# Altium integrated library ICs$.IntLib: 78 symbols
Pins are listed as number, name and electrical type; pins without a type are passive.

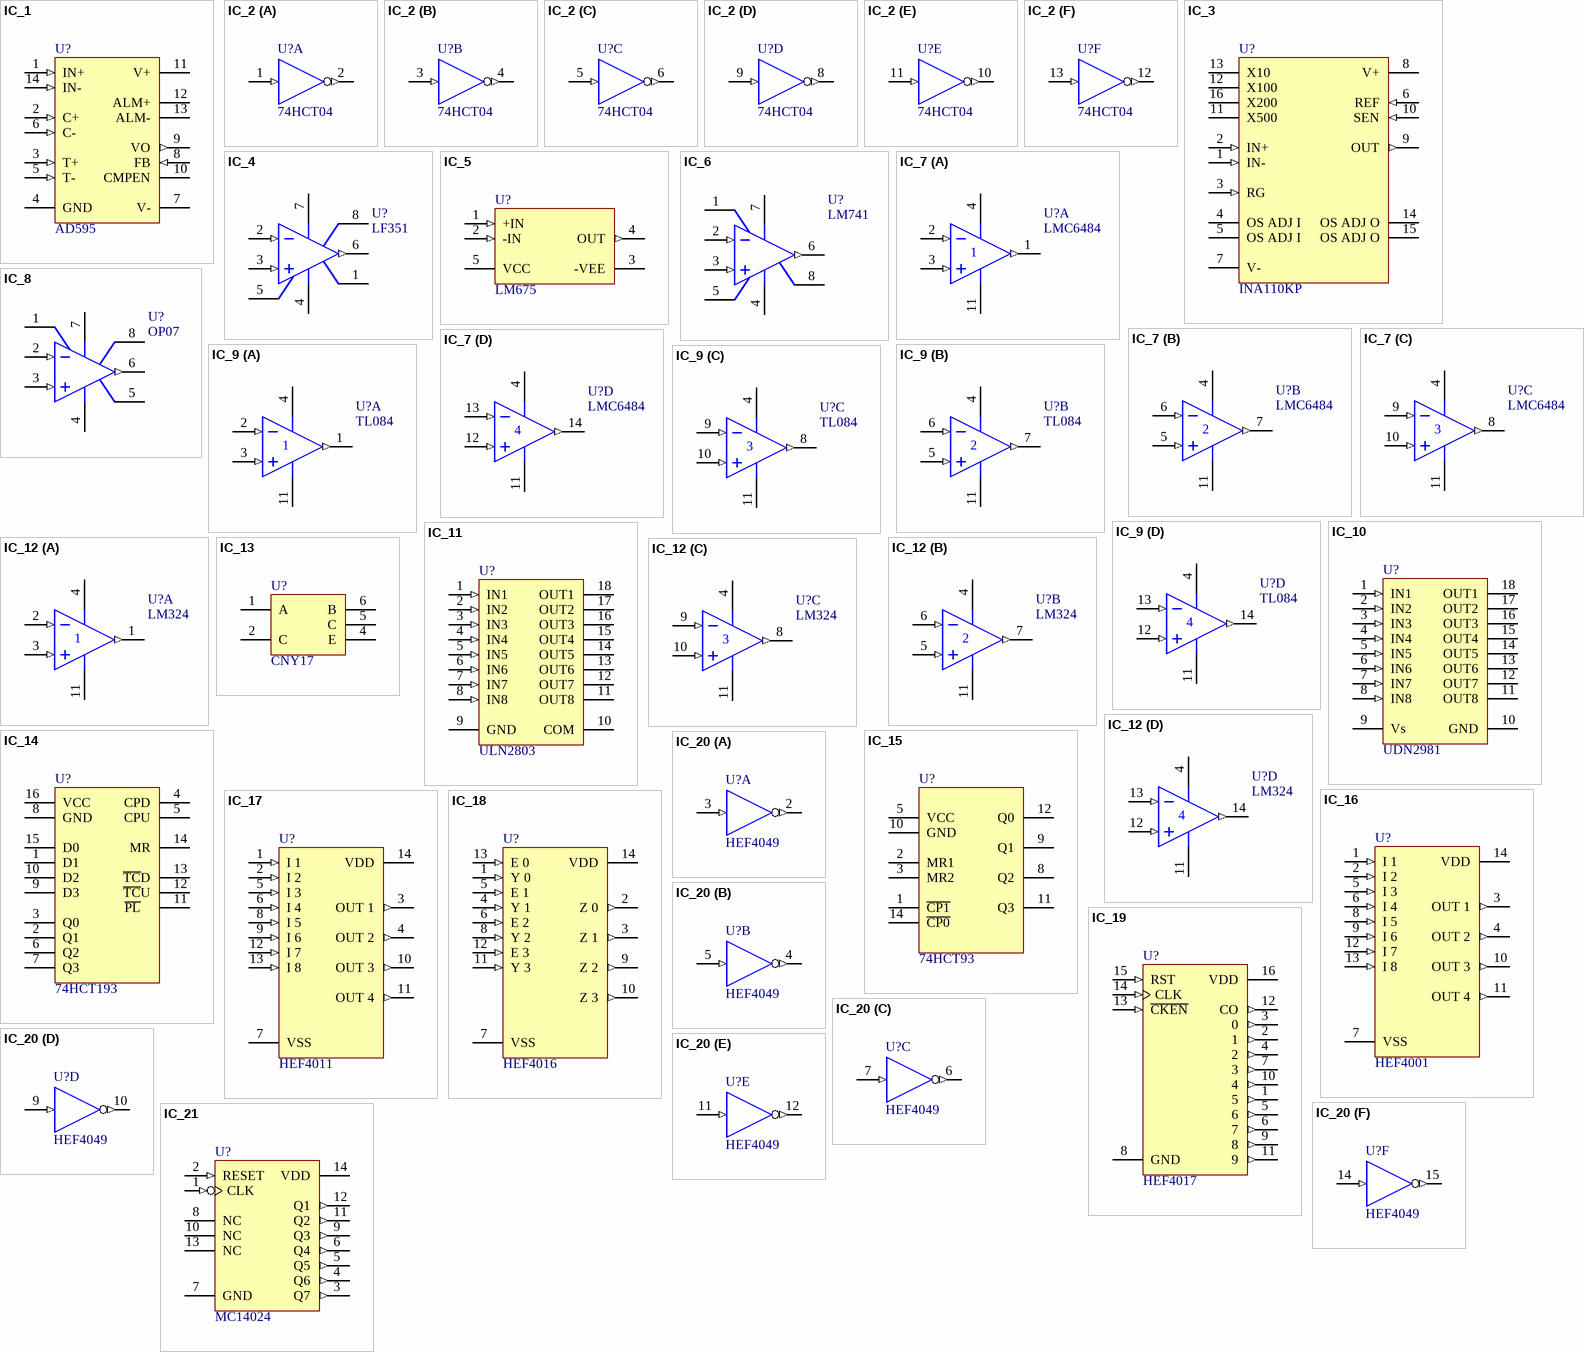
[diagram p0: symbols IC_1 to IC_21]

## IC_1
designator U?, comment AD595
RS_number: 301-779; IC_description: Messumformer Thermoelement; QR: 1; UID: IC_1; Name: AD595; Name_Hyperlink: IC AD595; ComponentLink1URL: #NAME?; mounting: THT
footprint DIP_14
pins: 1 IN+ (in), 2 C+ (in), 3 T+ (in), 4 GND (power), 5 T- (in), 6 C- (in), 7 V- (power), 8 FB (in), 9 VO (out), 10 CMPEN, 11 V+ (power), 12 ALM+, 13 ALM-, 14 IN- (in)

## IC_2
designator U?, comment 74HCT04
RS_number: 333-3791; IC_description: Inverter; QR: 1; UID: IC_2; Name: 74HCT04; Name_Hyperlink: IC CD74HCT04E; ComponentLink1URL: #NAME?; mounting: THT
footprint DIP_14
pins on every part: 7 GND (power) hidden to GND, 14 VDD (power) hidden to VDD
part A pins: 1 IN (in), 2 ~{OUT} (out)
part B pins: 3 IN (in), 4 ~{OUT} (out)
part C pins: 5 IN (in), 6 ~{OUT} (out)
part D pins: 8 ~{OUT} (out), 9 IN (in)
part E pins: 10 ~{OUT} (out), 11 IN (in)
part F pins: 12 ~{OUT} (out), 13 IN (in)

## IC_3
designator U?, comment INA110KP
RS_number: 647-643A; IC_description: INSTRUMENTATION AMPLIFIER; QR: 1; UID: IC_3; Name: INA110KP; Name_Hyperlink: IC INA110KP; ComponentLink1URL: #NAME?; mounting: THT
footprint DIP_16
pins: 1 IN- (in), 2 IN+ (in), 3 RG (in), 4 OS ADJ I, 5 OS ADJ I, 6 REF (in), 7 V- (power), 8 V+ (power), 9 OUT (out), 10 SEN (in), 11 X500, 12 X100, 13 X10, 14 OS ADJ O, 15 OS ADJ O, 16 X200

## IC_4
designator U?, comment LF351
RS_number: 2508332557; IC_description: OPV_1; QR: 1; UID: IC_4; Name: LF351; Name_Hyperlink: IC LF351N; ComponentLink1URL: #NAME?; mounting: THT
footprint DIP_8
pins: 1 OS TRIM, 2 IN- (in), 3 IN+ (in), 4 V- (power), 5 OS TRIM, 6 OUT (out), 7 V+ (power), 8 NC

## IC_5
designator U?, comment LM675
RS_number: 534-2747; IC_description: OPV_1; QR: 1; UID: IC_5; Name: LM675; Name_Hyperlink: IC LM675T; ComponentLink1URL: #NAME?; mounting: THT
footprint TO_220_5P
pins: 1 +IN (in), 2 -IN (in), 3 -VEE (power), 4 OUT (out), 5 VCC (power)

## IC_6
designator U?, comment LM741
RS_number: 535-9969; IC_description: OPV_1; QR: 1; UID: IC_6; Name: LM741; Name_Hyperlink: IC LM741CN; ComponentLink1URL: #NAME?; mounting: THT
footprint DIP_8
pins: 1 OFS NULL, 2 IN- (in), 3 IN+ (in), 4 V- (power), 5 OFS NULL, 6 OUT (out), 7 V+ (power), 8 NC

## IC_7
designator U?, comment LMC6484
RS_number: 534-4210P; IC_description: OPV_4; QR: 1; UID: IC_7; Name: LMC6484; Name_Hyperlink: IC LMC6484IN; ComponentLink1URL: #NAME?; mounting: THT
footprint DIP_14
pins on every part: 4 V+ (power), 11 V- (power)
part A pins: 1 OUT (out), 2 IN- (in), 3 IN+ (in)
part B pins: 5 IN+ (in), 6 IN- (in), 7 OUT (out)
part C pins: 8 OUT (out), 9 IN- (in), 10 IN+ (in)
part D pins: 12 IN+ (in), 13 IN- (in), 14 OUT (out)

## IC_8
designator U?, comment OP07
RS_number: 523-8036; IC_description: OPV_1; QR: 1; UID: IC_8; Name: OP07; Name_Hyperlink: IC OP07CP; ComponentLink1URL: #NAME?; mounting: THT
footprint DIP_8
pins: 1 VOSTRIM, 2 IN- (in), 3 IN+ (in), 4 V- (power), 5 NC, 6 OUT (out), 7 V+ (power), 8 VOSTRIM

## IC_9
designator U?, comment TL084
RS_number: 182-2592P; IC_description: OPV_4; QR: 1; UID: IC_9; Name: TL084; Name_Hyperlink: IC TL084ACN; ComponentLink1URL: #NAME?; mounting: THT
footprint DIP_14
pins on every part: 4 V+ (power), 11 V- (power)
part A pins: 1 OUT (out), 2 IN- (in), 3 IN+ (in)
part B pins: 5 IN+ (in), 6 IN- (in), 7 OUT (out)
part C pins: 8 OUT (out), 9 IN- (in), 10 IN+ (in)
part D pins: 12 IN+ (in), 13 IN- (in), 14 OUT (out)

## IC_10
designator U?, comment UDN2981
RS_number: 162-795; IC_description: 8_Channel_Driver; QR: 1; UID: IC_10; Name: UDN2981; Name_Hyperlink: IC UDN2981A; ComponentLink1URL: #NAME?; mounting: THT
footprint DIP_18
pins: 1 IN1 (in), 2 IN2 (in), 3 IN3 (in), 4 IN4 (in), 5 IN5 (in), 6 IN6 (in), 7 IN7 (in), 8 IN8 (in), 9 Vs (power), 10 GND, 11 OUT8 (oc), 12 OUT7 (oc), 13 OUT6 (oc), 14 OUT5 (oc), 15 OUT4 (oc), 16 OUT3 (oc), 17 OUT2 (oc), 18 OUT1 (oc)

## IC_11
designator U?, comment ULN2803
RS_number: 646-6305; IC_description: 8_Channel_Driver; QR: 1; UID: IC_11; Name: ULN2803; Name_Hyperlink: Octal Darlington Treiber ULN2803AN; ComponentLink1URL: #NAME?; mounting: THT
footprint DIP_18
pins: 1 IN1 (in), 2 IN2 (in), 3 IN3 (in), 4 IN4 (in), 5 IN5 (in), 6 IN6 (in), 7 IN7 (in), 8 IN8 (in), 9 GND (power), 10 COM, 11 OUT8 (oc), 12 OUT7 (oc), 13 OUT6 (oc), 14 OUT5 (oc), 15 OUT4 (oc), 16 OUT3 (oc), 17 OUT2 (oc), 18 OUT1 (oc)

## IC_12
designator U?, comment LM324
RS_number: 463-701; IC_description: OPV_4; QR: 1; UID: IC_12; Name: LM324; Name_Hyperlink: Operationsverstärker LM324ANG; ComponentLink1URL: #NAME?; mounting: THT
footprint DIP_14
pins on every part: 4 V+ (power), 11 V- (power)
part A pins: 1 OUT (out), 2 IN- (in), 3 IN+ (in)
part B pins: 5 IN+ (in), 6 IN- (in), 7 OUT (out)
part C pins: 8 OUT (out), 9 IN- (in), 10 IN+ (in)
part D pins: 12 IN+ (in), 13 IN- (in), 14 OUT (out)

## IC_13
designator U?, comment CNY17
RS_number: 111-100A; IC_description: Optocoupler; QR: 1; UID: IC_13; Name: CNY17; Name_Hyperlink: Optokoppler CNY 17-1; ComponentLink1URL: #NAME?; mounting: THT
footprint DIP_6
pins: 1 A, 2 C, 4 E, 5 C, 6 B

## IC_14
designator U?, comment 74HCT193
RS_number: 634-619; IC_description: Counter; QR: 1; UID: IC_14; Name: 74HCT193; Name_Hyperlink: IC CD74HCT193; ComponentLink1URL: #NAME?; mounting: THT
footprint DIP_16
pins: 1 D1 (power), 2 Q1 (power), 3 Q0 (power), 4 CPD (power), 5 CPU (power), 6 Q2 (power), 7 Q3 (power), 8 GND (power), 9 D3 (power), 10 D2 (power), 11 ~{PL}    (power), 12 ~{TC}U (power), 13 ~{TC}D (power), 14 MR (power), 15 D0 (power), 16 VCC (power)

## IC_15
designator U?, comment 74HCT93
RS_number: 333-5129; IC_description: Counter; QR: 1; UID: IC_15; Name: 74HCT93; Name_Hyperlink: IC CD74HCT93E; ComponentLink1URL: #NAME?; mounting: THT
footprint DIP_14
pins: 1 ~{CP1} (power), 2 MR1 (power), 3 MR2 (power), 5 VCC (power), 8 Q2 (power), 9 Q1 (power), 10 GND (power), 11 Q3 (power), 12 Q0 (power), 14 ~{CP0} (power)

## IC_16
designator U?, comment HEF4001
RS_number: 333-3303; IC_description: NOR; QR: 1; UID: IC_16; Name: HEF4001; Name_Hyperlink: IC HEF4001BP; ComponentLink1URL: #NAME?; mounting: THT
footprint DIP_14
pins: 1 I 1 (in), 2 I 2 (in), 3 OUT 1 (out), 4 OUT 2 (out), 5 I 3 (in), 6 I 4 (in), 7 VSS (power), 8 I 5 (in), 9 I 6 (in), 10 OUT 3 (out), 11 OUT 4 (out), 12 I 7 (in), 13 I 8 (in), 14 VDD (power)

## IC_17
designator U?, comment HEF4011
RS_number: 368-6887; IC_description: NAND; QR: 1; UID: IC_17; Name: HEF4011; Name_Hyperlink: IC HEF4011UBP (Stange); ComponentLink1URL: #NAME?; mounting: THT
footprint DIP_14
pins: 1 I 1 (in), 2 I 2 (in), 3 OUT 1 (out), 4 OUT 2 (out), 5 I 3 (in), 6 I 4 (in), 7 VSS (power), 8 I 5 (in), 9 I 6 (in), 10 OUT 3 (out), 11 OUT 4 (out), 12 I 7 (in), 13 I 8 (in), 14 VDD (power)

## IC_18
designator U?, comment HEF4016
RS_number: 306-033; IC_description: Multiplexer; QR: 1; UID: IC_18; Name: HEF4016; Name_Hyperlink: IC HEF4016BP; ComponentLink1URL: #NAME?; mounting: THT
footprint DIP_14
pins: 1 Y 0 (in), 2 Z 0 (out), 3 Z 1 (out), 4 Y 1 (in), 5 E 1 (in), 6 E 2 (in), 7 VSS (power), 8 Y 2 (in), 9 Z 2 (out), 10 Z 3 (out), 11 Y 3 (in), 12 E 3 (in), 13 E 0 (in), 14 VDD (power)

## IC_19
designator U?, comment HEF4017
RS_number: 306-588; IC_description: Counter; QR: 1; UID: IC_19; Name: HEF4017; Name_Hyperlink: IC HEF4017BP; ComponentLink1URL: #NAME?; mounting: THT
footprint DIP_14
pins: 1 5 (out), 2 1 (out), 3 0 (out), 4 2 (out), 5 6 (out), 6 7 (out), 7 3 (out), 8 GND (power), 9 8 (out), 10 4 (out), 11 9 (out), 12 CO (out), 13 ~{CKEN} (in), 14 CLK (in), 15 RST (in), 16 VDD (power)

## IC_20
designator U?, comment HEF4049
RS_number: 333-3482; IC_description: Inverter; QR: 1; UID: IC_20; Name: HEF4049; Name_Hyperlink: IC HEF4049BP; ComponentLink1URL: #NAME?; mounting: THT
footprint DIP_16
pins on every part: 1 VCC (power) hidden to VCC, 8 GND (power) hidden to GND
part A pins: 2 Y (out), 3 A (in)
part B pins: 4 Y (out), 5 A (in)
part C pins: 6 Y (out), 7 A (in)
part D pins: 9 A (in), 10 Y (out)
part E pins: 11 A (in), 12 Y (out)
part F pins: 14 A (in), 15 Y (out)

## IC_21
designator U?, comment MC14024
RS_number: 518-8818; IC_description: Counter; QR: 1; UID: IC_21; Name: MC14024; Name_Hyperlink: IC MC14024BCP; ComponentLink1URL: #NAME?; mounting: THT
footprint DIP_14
pins: 1 CLK (in), 2 RESET (in), 3 Q7 (out), 4 Q6 (out), 5 Q5 (out), 6 Q4 (out), 7 GND (power), 8 NC, 9 Q3 (out), 10 NC, 11 Q2 (out), 12 Q1 (out), 13 NC, 14 VDD (power)

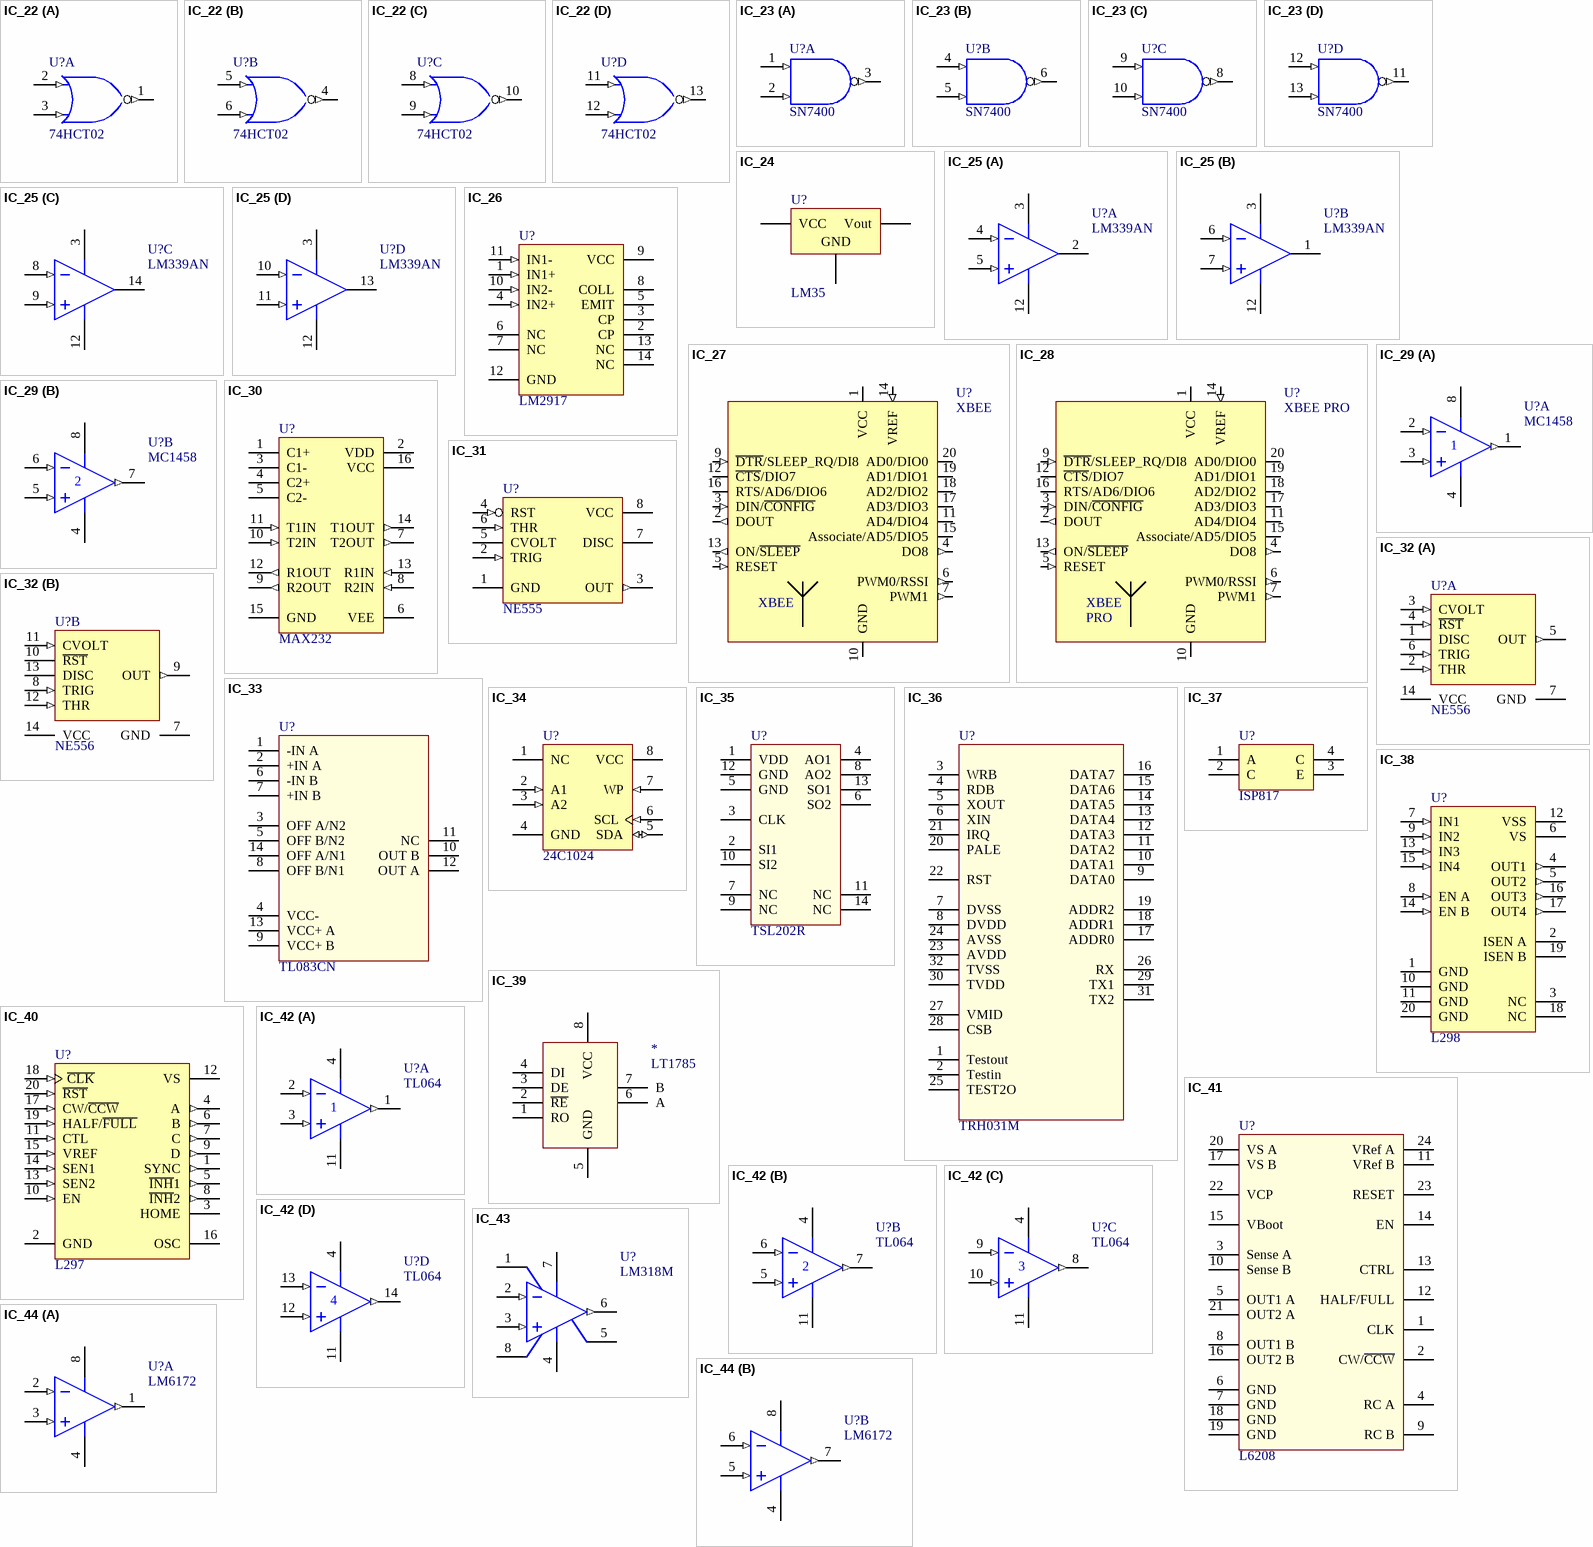
[diagram p1: symbols IC_22 to IC_44]

## IC_22
designator U?, comment 74HCT02
RS_number: 169-6163; IC_description: NOR; QR: 1; UID: IC_22; Name: 74HCT02; Name_Hyperlink: IC PC74HCT02N; ComponentLink1URL: #NAME?; mounting: THT
footprint DIP_14
pins on every part: 7 GND (power) hidden to GND, 14 VCC (power) hidden to VCC
part A pins: 1 Y (out), 2 A (in), 3 B (in)
part B pins: 4 Y (out), 5 A (in), 6 B (in)
part C pins: 8 A (in), 9 B (in), 10 Y (out)
part D pins: 11 A (in), 12 B (in), 13 Y (out)

## IC_23
designator U?, comment SN7400
RS_number: 368-5569; IC_description: NAND; QR: 1; UID: IC_23; Name: SN7400; Name_Hyperlink: IC SN7400N (Stange); ComponentLink1URL: #NAME?; mounting: THT
footprint DIP_14
pins on every part: 7 GND (power) hidden to GND, 14 VCC (power) hidden to VCC
part A pins: 1 A (in), 2 B (in), 3 Y (out)
part B pins: 4 A (in), 5 B (in), 6 Y (out)
part C pins: 8 Y (out), 9 A (in), 10 B (in)
part D pins: 11 Y (out), 12 A (in), 13 B (in)

## IC_24
designator U?, comment LM35
RS_number: 533-5907; IC_description: Temp. Sensor; QR: 0; UID: IC_24; Name: LM35; Name_Hyperlink: IC LM35 DZ; ComponentLink1URL: #NAME?; mounting: THT
footprint TO_92
pins: 1 VCC, 2 Vout, 3 GND

## IC_25
designator U?, comment LM339AN
RS_number: 356-4399; IC_description: Comparator; QR: 0; UID: IC_25; Name: LM339AN; Name_Hyperlink: LM339AN; ComponentLink1URL: #NAME?; mounting: THT
footprint DIP_14
pins on every part: 3 V+ (power), 12 V- (power)
part A pins: 2 OUT (oc), 4 IN- (in), 5 IN+ (in)
part B pins: 1 OUT (oc), 6 IN- (in), 7 IN+ (in)
part C pins: 8 IN- (in), 9 IN+ (in), 14 OUT (oc)
part D pins: 10 IN- (in), 11 IN+ (in), 13 OUT (oc)

## IC_26
designator U?, comment LM2917
RS_number: 460-948; IC_description: f to U conv.; QR: 0; UID: IC_26; Name: LM2917; Name_Hyperlink: LM2917N/NOPB; ComponentLink1URL: #NAME?; mounting: THT
footprint DIP_14
pins: 1 IN1+ (in), 2 CP, 3 CP, 4 IN2+ (in), 5 EMIT, 6 NC, 7 NC, 8 COLL, 9 VCC, 10 IN2- (in), 11 IN1- (in), 12 GND, 13 NC, 14 NC

## IC_27
designator U?, comment XBEE
IC_description: Transceiver; QR: 0; UID: IC_27; Name: XBEE; ComponentLink1URL: #NAME?; mounting: THT
footprint XBEE
pins: 1 VCC (power), 2 DOUT (out), 3 DIN/~{CONFIG} (in), 4 DO8 (out), 5 RESET (in), 6 PWM0/RSSI (out), 7 PWM1 (out), 8 NC hidden, 9 ~{DTR}/SLEEP_RQ/DI8 (in), 10 GND (power), 11 AD4/DIO4 (power), 12 ~{CTS}/DIO7 (power), 13 ON/~{SLEEP} (out), 14 VREF (in), 15 Associate/AD5/DIO5, 16 RTS/AD6/DIO6, 17 AD3/DIO3, 18 AD2/DIO2, 19 AD1/DIO1, 20 AD0/DIO0

## IC_28
designator U?, comment XBEE PRO
IC_description: Transceiver; QR: 0; UID: IC_28; Name: XBEE PRO; ComponentLink1URL: #NAME?; mounting: THT
footprint XBEE PRO
pins: 1 VCC (power), 2 DOUT (out), 3 DIN/~{CONFIG} (in), 4 DO8 (out), 5 RESET (in), 6 PWM0/RSSI (out), 7 PWM1 (out), 8 NC hidden, 9 ~{DTR}/SLEEP_RQ/DI8 (in), 10 GND (power), 11 AD4/DIO4 (power), 12 ~{CTS}/DIO7 (power), 13 ON/~{SLEEP} (out), 14 VREF (in), 15 Associate/AD5/DIO5, 16 RTS/AD6/DIO6, 17 AD3/DIO3, 18 AD2/DIO2, 19 AD1/DIO1, 20 AD0/DIO0
text: XBEE; PRO

## IC_29
designator U?, comment MC1458
RS_number: 426-140; IC_description: OPV_2; QR: 0; UID: IC_29; Name: MC1458; Name_Hyperlink: MC1458N; ComponentLink1URL: #NAME?; mounting: THT
footprint DIP_8
pins on every part: 4 V- (power), 8 V+ (power)
part A pins: 1 OUT (out), 2 IN- (in), 3 IN+ (in)
part B pins: 5 IN+ (in), 6 IN- (in), 7 OUT (out)

## IC_30
designator U?, comment MAX232
RS_number: 195-1195; IC_description: RS_232; QR: 0; UID: IC_30; Name: MAX232; Name_Hyperlink: IC MAX232N; ComponentLink1URL: #NAME?; mounting: THT
footprint DIP_16
pins: 1 C1+, 2 VDD (power), 3 C1-, 4 C2+, 5 C2-, 6 VEE (power), 7 T2OUT (out), 8 R2IN (in), 9 R2OUT (out), 10 T2IN (in), 11 T1IN (in), 12 R1OUT (out), 13 R1IN (in), 14 T1OUT (out), 15 GND (power), 16 VCC (power)

## IC_31
designator U?, comment NE555
RS_number: 221-5535; IC_description: Timer; QR: 0; UID: IC_31; Name: NE555; Name_Hyperlink: NE555P; ComponentLink1URL: #NAME?; mounting: THT
footprint DIP_8
pins: 1 GND (power), 2 TRIG (in), 3 OUT (out), 4 RST (in), 5 CVOLT, 6 THR (in), 7 DISC (oc), 8 VCC (power)

## IC_32
designator U?, comment NE556
RS_number: 528-416; IC_description: Timer; QR: 0; UID: IC_32; Name: NE556; Name_Hyperlink: NE556N; ComponentLink1URL: #NAME?; mounting: THT
footprint DIP_14
pins on every part: 7 GND (power), 14 VCC (power)
part A pins: 1 DISC (oc), 2 THR (in), 3 CVOLT (in), 4 ~{RST} (in), 5 OUT (out), 6 TRIG (in)
part B pins: 8 TRIG (in), 9 OUT (out), 10 ~{RST}, 11 CVOLT (in), 12 THR (in), 13 DISC (oc)

## IC_33
designator U?, comment TL083CN
IC_description: OPV_2; QR: 0; UID: IC_33; Name: TL083CN; ComponentLink1URL: #NAME?; mounting: THT
footprint DIP_14
pins: 1 -IN A, 2 +IN A, 3 OFF A/N2, 4 VCC-, 5 OFF B/N2, 6 -IN B, 7 +IN B, 8 OFF B/N1, 9 VCC+ B, 10 OUT B, 11 NC, 12 OUT A, 13 VCC+ A, 14 OFF A/N1

## IC_34
designator U?, comment 24C1024
RS_number: 696-3095; IC_description: EEPROM; QR: 0; UID: IC_34; Name: 24C1024; Name_Hyperlink: Serial EEPROM (128K X 8) 1M 2.5V 8-DIP; ComponentLink1URL: #NAME?; mounting: THT
footprint DIP_8
pins: 1 NC, 2 A1 (in), 3 A2 (in), 4 GND (power), 5 SDA (io), 6 SCL (in), 7 WP (in), 8 VCC (power)

## IC_35
designator U?, comment TSL202R
IC_description: Sensorarray; QR: 0; UID: IC_35; Name: TSL202R; ComponentLink1URL: #NAME?; mounting: THT
footprint DIP_14
pins: 1 VDD, 2 SI1, 3 CLK, 4 AO1, 5 GND, 6 SO2, 7 NC, 8 AO2, 9 NC, 10 SI2, 11 NC, 12 GND, 13 SO1, 14 NC

## IC_36
designator U?, comment TRH031M
RS_number: 537-791; IC_description: RFID; QR: 0; UID: IC_36; Name: TRH031M; Name_Hyperlink: TRH031M; ComponentLink1URL: #NAME?; mounting: SMD
footprint QFP_32
pins: 1 Testout, 2 Testin, 3 WRB, 4 RDB, 5 XOUT, 6 XIN, 7 DVSS, 8 DVDD, 9 DATA0, 10 DATA1, 11 DATA2, 12 DATA3, 13 DATA4, 14 DATA5, 15 DATA6, 16 DATA7, 17 ADDR0, 18 ADDR1, 19 ADDR2, 20 PALE, 21 IRQ, 22 RST, 23 AVDD, 24 AVSS, 25 TEST2O, 26 RX, 27 VMID, 28 CSB, 29 TX1, 30 TVDD, 31 TX2, 32 TVSS

## IC_37
designator U?, comment ISP817
RS_number: 453-0640; IC_description: Optocoupler; QR: 0; UID: IC_37; Name: ISP817; Name_Hyperlink: ISP817XB; ComponentLink1URL: #NAME?; mounting: THT
footprint DIP_4
pins: 1 A, 2 C, 3 E, 4 C

## IC_38
designator U?, comment L298
RS_number: 714-7715P; QR: 0; UID: IC_38; Name: L298; Name_Hyperlink: Dual Full Bridge Motor Driver 42V; ComponentLink1URL: #NAME?; mounting: SMD
footprint POWER_SO_20
pins: 1 GND (power), 2 ISEN A, 3 NC, 4 OUT1 (out), 5 OUT2 (out), 6 VS (power), 7 IN1 (in), 8 EN A (in), 9 IN2 (in), 10 GND (power), 11 GND (power), 12 VSS (power), 13 IN3 (in), 14 EN B (in), 15 IN4 (in), 16 OUT3 (out), 17 OUT4 (out), 18 NC, 19 ISEN B, 20 GND (power)

## IC_39
designator *, comment LT1785
RS_number: 411-914; IC_description: RS_485; QR: 0; UID: IC_39; Name: LT1785; Name_Hyperlink: CAN Transceiver LT1785 verpolungssicher; ComponentLink1URL: #NAME?; mounting: SMD
footprint SO_8
pins: 1 RO, 2 ~{RE}, 3 DE, 4 DI, 5 GND, 6 A, 7 B, 8 VCC

## IC_40
designator U?, comment L297
RS_number: 456-428P; QR: 0; UID: IC_40; Name: L297; Name_Hyperlink: Motorsteuerung L297D; ComponentLink1URL: #NAME?; mounting: SMD
footprint SO_20
pins: 1 SYNC (out), 2 GND (power), 3 HOME (oc), 4 A (out), 5 ~{INH}1 (out), 6 B (out), 7 C (out), 8 ~{INH}2 (out), 9 D (out), 10 EN (in), 11 CTL (in), 12 VS (power), 13 SEN2 (in), 14 SEN1 (in), 15 VREF (in), 16 OSC, 17 CW/~{CCW} (in), 18 ~{CLK} (in), 19 HALF/~{FULL} (in), 20 ~{RST} (in)

## IC_41
designator U?, comment L6208
RS_number: 714-0650; QR: 0; UID: IC_41; Name: L6208; Name_Hyperlink: DMOS Stepping Motor Driver 48V; ComponentLink1URL: #NAME?; mounting: SMD
footprint SO_J24_HEATSINK
pins: 1 CLK, 2 CW/~{CCW}, 3 Sense A, 4 RC A, 5 OUT1 A, 6 GND, 7 GND, 8 OUT1 B, 9 RC B, 10 Sense B, 11 VRef B, 12 HALF/FULL, 13 CTRL, 14 EN, 15 VBoot, 16 OUT2 B, 17 VS B, 18 GND, 19 GND, 20 VS A, 21 OUT2 A, 22 VCP, 23 RESET, 24 VRef A

## IC_42
designator U?, comment TL064
RS_number: 527-861; IC_description: OPV_4; QR: 0; UID: IC_42; Name: TL064; Name_Hyperlink: IC TL064CDR; ComponentLink1URL: #NAME?; mounting: SMD
footprint SO_14
pins on every part: 4 V+ (power), 11 V- (power)
part A pins: 1 OUT (out), 2 IN- (in), 3 IN+ (in)
part B pins: 5 IN+ (in), 6 IN- (in), 7 OUT (out)
part C pins: 8 OUT (out), 9 IN- (in), 10 IN+ (in)
part D pins: 12 IN+ (in), 13 IN- (in), 14 OUT (out)

## IC_43
designator U?, comment LM318M
RS_number: 761-5624; IC_description: OPV_1; QR: 0; UID: IC_43; Name: LM318M; Name_Hyperlink: LM318M; ComponentLink1URL: #NAME?; mounting: SMD
footprint SO_8
pins: 1 BAL/COMP1, 2 IN- (in), 3 IN+ (in), 4 V- (power), 5 BAL/COMP3, 6 OUT (out), 7 V+ (power), 8 COMP2

## IC_44
designator U?, comment LM6172
RS_number: 534-3627; IC_description: OPV_2; QR: 0; UID: IC_44; Name: LM6172; Name_Hyperlink: LM6172IM/NOPB; ComponentLink1URL: #NAME?; mounting: SMD
footprint SO_8
pins on every part: 4 V- (power), 8 V+ (power)
part A pins: 1 OUTA (out), 2 INA- (in), 3 INA+ (in)
part B pins: 5 INB+ (in), 6 INB- (in), 7 OUTB (out)

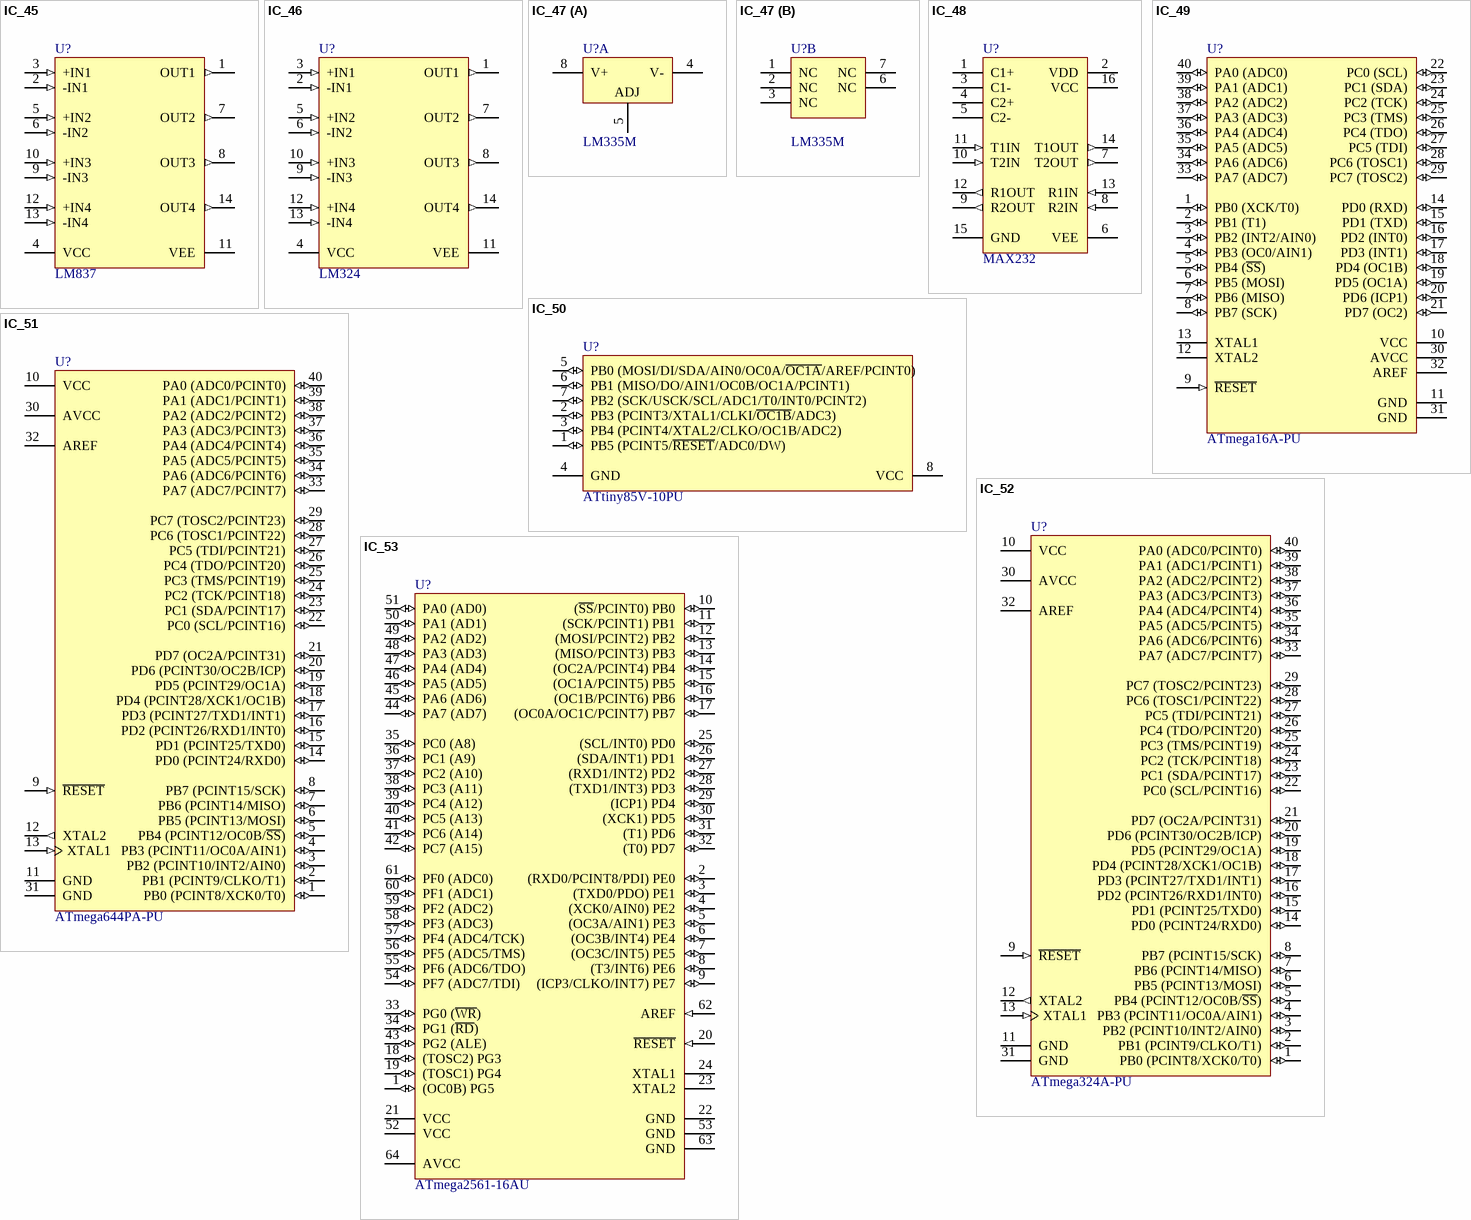
[diagram p2: symbols IC_45 to IC_53]

## IC_45
designator U?, comment LM837
RS_number: 461-004; IC_description: OPV_4; QR: 0; UID: IC_45; Name: LM837; Name_Hyperlink: LM837; ComponentLink1URL: #NAME?; mounting: SMD
footprint SO_14
pins: 1 OUT1 (out), 2 -IN1 (in), 3 +IN1 (in), 4 VCC (power), 5 +IN2 (in), 6 -IN2 (in), 7 OUT2 (out), 8 OUT3 (out), 9 -IN3 (in), 10 +IN3 (in), 11 VEE (power), 12 +IN4 (in), 13 -IN4 (in), 14 OUT4 (out)

## IC_46
designator U?, comment LM324
RS_number: 536-0925; IC_description: OPV_4; QR: 0; UID: IC_46; Name: LM324; Name_Hyperlink: LM324AM/NOPB; ComponentLink1URL: #NAME?; mounting: SMD
footprint SO_14
pins: 1 OUT1 (out), 2 -IN1 (in), 3 +IN1 (in), 4 VCC (power), 5 +IN2 (in), 6 -IN2 (in), 7 OUT2 (out), 8 OUT3 (out), 9 -IN3 (in), 10 +IN3 (in), 11 VEE (power), 12 +IN4 (in), 13 -IN4 (in), 14 OUT4 (out)

## IC_47
designator U?, comment LM335M
RS_number: 535-9111; IC_description: Temp. Sensor; QR: 0; UID: IC_47; Name: LM335M; Name_Hyperlink: LM335M; ComponentLink1URL: #NAME?; mounting: SMD
footprint SO_8
part A pins: 4 V-, 5 ADJ, 8 V+
part B pins: 1 NC, 2 NC, 3 NC, 6 NC, 7 NC

## IC_48
designator U?, comment MAX232
RS_number: 622-7857; IC_description: RS_232; QR: 0; UID: IC_48; Name: MAX232; Name_Hyperlink: MAX232; ComponentLink1URL: #NAME?; mounting: SMD
footprint SO_16_W
pins: 1 C1+, 2 VDD (power), 3 C1-, 4 C2+, 5 C2-, 6 VEE (power), 7 T2OUT (out), 8 R2IN (in), 9 R2OUT (out), 10 T2IN (in), 11 T1IN (in), 12 R1OUT (out), 13 R1IN (in), 14 T1OUT (out), 15 GND (power), 16 VCC (power)

## IC_49
designator U?, comment ATmega16A-PU
IC_description: Microcontroller; QR: 0; UID: IC_49; Name: ATmega16A-PU; ComponentLink1URL: #NAME?; mounting: THT
footprint DIP_40
pins: 1 PB0 (XCK/T0) (io), 2 PB1 (T1) (io), 3 PB2 (INT2/AIN0) (io), 4 PB3 (OC0/AIN1) (io), 5 PB4 (~{SS}) (io), 6 PB5 (MOSI) (io), 7 PB6 (MISO) (io), 8 PB7 (SCK) (io), 9 ~{RESET} (in), 10 VCC (power), 11 GND (power), 12 XTAL2, 13 XTAL1, 14 PD0 (RXD) (io), 15 PD1 (TXD) (io), 16 PD2 (INT0) (io), 17 PD3 (INT1) (io), 18 PD4 (OC1B) (io), 19 PD5 (OC1A) (io), 20 PD6 (ICP1) (io), 21 PD7 (OC2) (io), 22 PC0 (SCL) (io), 23 PC1 (SDA) (io), 24 PC2 (TCK) (io), 25 PC3 (TMS) (io), 26 PC4 (TDO) (io), 27 PC5 (TDI) (io), 28 PC6 (TOSC1) (io), 29 PC7 (TOSC2) (io), 30 AVCC (power), 31 GND (power), 32 AREF (power), 33 PA7 (ADC7) (io), 34 PA6 (ADC6) (io), 35 PA5 (ADC5) (io), 36 PA4 (ADC4) (io), 37 PA3 (ADC3) (io), 38 PA2 (ADC2) (io), 39 PA1 (ADC1) (io), 40 PA0 (ADC0) (io)

## IC_50
designator U?, comment ATtiny85V-10PU
RS_number: 696-2339; IC_description: Microcontroller; QR: 1; UID: IC_50; Name: ATtiny85V-10PU; Name_Hyperlink: Attiny AVR 8K FLASH 512B EE_; ComponentLink1URL: #NAME?; mounting: THT
footprint DIP_8
pins: 1 PB5 (PCINT5/~{RESET}/ADC0/DW) (io), 2 PB3 (PCINT3/XTAL1/CLKI/~{OC1B}/ADC3) (io), 3 PB4 (PCINT4/XTAL2/CLKO/OC1B/ADC2) (io), 4 GND (power), 5 PB0 (MOSI/DI/SDA/AIN0/OC0A/~{OC1A}/AREF/PCINT0) (io), 6 PB1 (MISO/DO/AIN1/OC0B/OC1A/PCINT1) (io), 7 PB2 (SCK/USCK/SCL/ADC1/T0/INT0/PCINT2) (io), 8 VCC (power)

## IC_51
designator U?, comment ATmega644PA-PU
RS_number: 719-3972P; IC_description: Microcontroller; QR: 0; UID: IC_51; Name: ATmega644PA-PU; Name_Hyperlink: MCU 8-Bit ATmega AVR RISC 64KB Flash; ComponentLink1URL: #NAME?; mounting: THT
footprint DIP_40
pins: 1 PB0 (PCINT8/XCK0/T0) (io), 2 PB1 (PCINT9/CLKO/T1) (io), 3 PB2 (PCINT10/INT2/AIN0) (io), 4 PB3 (PCINT11/OC0A/AIN1) (io), 5 PB4 (PCINT12/OC0B/~{SS}) (io), 6 PB5 (PCINT13/MOSI) (io), 7 PB6 (PCINT14/MISO) (io), 8 PB7 (PCINT15/SCK) (io), 9 ~{RESET} (in), 10 VCC (power), 11 GND (power), 12 XTAL2 (out), 13 XTAL1 (in), 14 PD0 (PCINT24/RXD0) (io), 15 PD1 (PCINT25/TXD0) (io), 16 PD2 (PCINT26/RXD1/INT0) (io), 17 PD3 (PCINT27/TXD1/INT1) (io), 18 PD4 (PCINT28/XCK1/OC1B) (io), 19 PD5 (PCINT29/OC1A) (io), 20 PD6 (PCINT30/OC2B/ICP) (io), 21 PD7 (OC2A/PCINT31) (io), 22 PC0 (SCL/PCINT16) (io), 23 PC1 (SDA/PCINT17) (io), 24 PC2 (TCK/PCINT18) (io), 25 PC3 (TMS/PCINT19) (io), 26 PC4 (TDO/PCINT20) (io), 27 PC5 (TDI/PCINT21) (io), 28 PC6 (TOSC1/PCINT22) (io), 29 PC7 (TOSC2/PCINT23) (io), 30 AVCC (power), 31 GND (power), 32 AREF (power), 33 PA7 (ADC7/PCINT7) (io), 34 PA6 (ADC6/PCINT6) (io), 35 PA5 (ADC5/PCINT5) (io), 36 PA4 (ADC4/PCINT4) (io), 37 PA3 (ADC3/PCINT3) (io), 38 PA2 (ADC2/PCINT2) (io), 39 PA1 (ADC1/PCINT1) (io), 40 PA0 (ADC0/PCINT0) (io)

## IC_52
designator U?, comment ATmega324A-PU
RS_number: 719-3957P; IC_description: Microcontroller; QR: 0; UID: IC_52; Name: ATmega324A-PU; Name_Hyperlink: MCU 8-Bit ATmega AVR RISC 32KB Flash; ComponentLink1URL: #NAME?; mounting: THT
footprint DIP_40
pins: 1 PB0 (PCINT8/XCK0/T0) (io), 2 PB1 (PCINT9/CLKO/T1) (io), 3 PB2 (PCINT10/INT2/AIN0) (io), 4 PB3 (PCINT11/OC0A/AIN1) (io), 5 PB4 (PCINT12/OC0B/~{SS}) (io), 6 PB5 (PCINT13/MOSI) (io), 7 PB6 (PCINT14/MISO) (io), 8 PB7 (PCINT15/SCK) (io), 9 ~{RESET} (in), 10 VCC (power), 11 GND (power), 12 XTAL2 (out), 13 XTAL1 (in), 14 PD0 (PCINT24/RXD0) (io), 15 PD1 (PCINT25/TXD0) (io), 16 PD2 (PCINT26/RXD1/INT0) (io), 17 PD3 (PCINT27/TXD1/INT1) (io), 18 PD4 (PCINT28/XCK1/OC1B) (io), 19 PD5 (PCINT29/OC1A) (io), 20 PD6 (PCINT30/OC2B/ICP) (io), 21 PD7 (OC2A/PCINT31) (io), 22 PC0 (SCL/PCINT16) (io), 23 PC1 (SDA/PCINT17) (io), 24 PC2 (TCK/PCINT18) (io), 25 PC3 (TMS/PCINT19) (io), 26 PC4 (TDO/PCINT20) (io), 27 PC5 (TDI/PCINT21) (io), 28 PC6 (TOSC1/PCINT22) (io), 29 PC7 (TOSC2/PCINT23) (io), 30 AVCC (power), 31 GND (power), 32 AREF (power), 33 PA7 (ADC7/PCINT7) (io), 34 PA6 (ADC6/PCINT6) (io), 35 PA5 (ADC5/PCINT5) (io), 36 PA4 (ADC4/PCINT4) (io), 37 PA3 (ADC3/PCINT3) (io), 38 PA2 (ADC2/PCINT2) (io), 39 PA1 (ADC1/PCINT1) (io), 40 PA0 (ADC0/PCINT0) (io)

## IC_53
designator U?, comment ATmega2561-16AU
IC_description: Microcontroller; QR: 0; UID: IC_53; Name: ATmega2561-16AU; ComponentLink1URL: #NAME?; mounting: SMD
footprint QFP_64
pins: 1 (OC0B) PG5 (io), 2 (RXD0/PCINT8/PDI) PE0 (io), 3 (TXD0/PDO) PE1 (io), 4 (XCK0/AIN0) PE2 (io), 5 (OC3A/AIN1) PE3 (io), 6 (OC3B/INT4) PE4 (io), 7 (OC3C/INT5) PE5 (io), 8 (T3/INT6) PE6 (io), 9 (ICP3/CLKO/INT7) PE7 (io), 10 (~{SS}/PCINT0) PB0 (io), 11 (SCK/PCINT1) PB1 (io), 12 (MOSI/PCINT2) PB2 (io), 13 (MISO/PCINT3) PB3 (io), 14 (OC2A/PCINT4) PB4 (io), 15 (OC1A/PCINT5) PB5 (io), 16 (OC1B/PCINT6) PB6 (io), 17 (OC0A/OC1C/PCINT7) PB7 (io), 18 (TOSC2) PG3 (io), 19 (TOSC1) PG4 (io), 20 ~{RESET} (in), 21 VCC (power), 22 GND (power), 23 XTAL2, 24 XTAL1, 25 (SCL/INT0) PD0 (io), 26 (SDA/INT1) PD1 (io), 27 (RXD1/INT2) PD2 (io), 28 (TXD1/INT3) PD3 (io), 29 (ICP1) PD4 (io), 30 (XCK1) PD5 (io), 31 (T1) PD6 (io), 32 (T0) PD7 (io), 33 PG0 (~{WR})  (io), 34 PG1 (~{RD})  (io), 35 PC0 (A8)  (io), 36 PC1 (A9)  (io), 37 PC2 (A10)  (io), 38 PC3 (A11)  (io), 39 PC4 (A12)  (io), 40 PC5 (A13)  (io), 41 PC6 (A14)  (io), 42 PC7 (A15)  (io), 43 PG2 (ALE)  (io), 44 PA7 (AD7)  (io), 45 PA6 (AD6)  (io), 46 PA5 (AD5)  (io), 47 PA4 (AD4)  (io), 48 PA3 (AD3)  (io), 49 PA2 (AD2) (io), 50 PA1 (AD1) (io), 51 PA0 (AD0) (io), 52 VCC (power), 53 GND (power), 54 PF7 (ADC7/TDI) (io), 55 PF6 (ADC6/TDO) (io), 56 PF5 (ADC5/TMS) (io), 57 PF4 (ADC4/TCK) (io), 58 PF3 (ADC3) (io), 59 PF2 (ADC2) (io), 60 PF1 (ADC1) (io), 61 PF0 (ADC0) (io), 62 AREF (in), 63 GND (power), 64 AVCC (power)

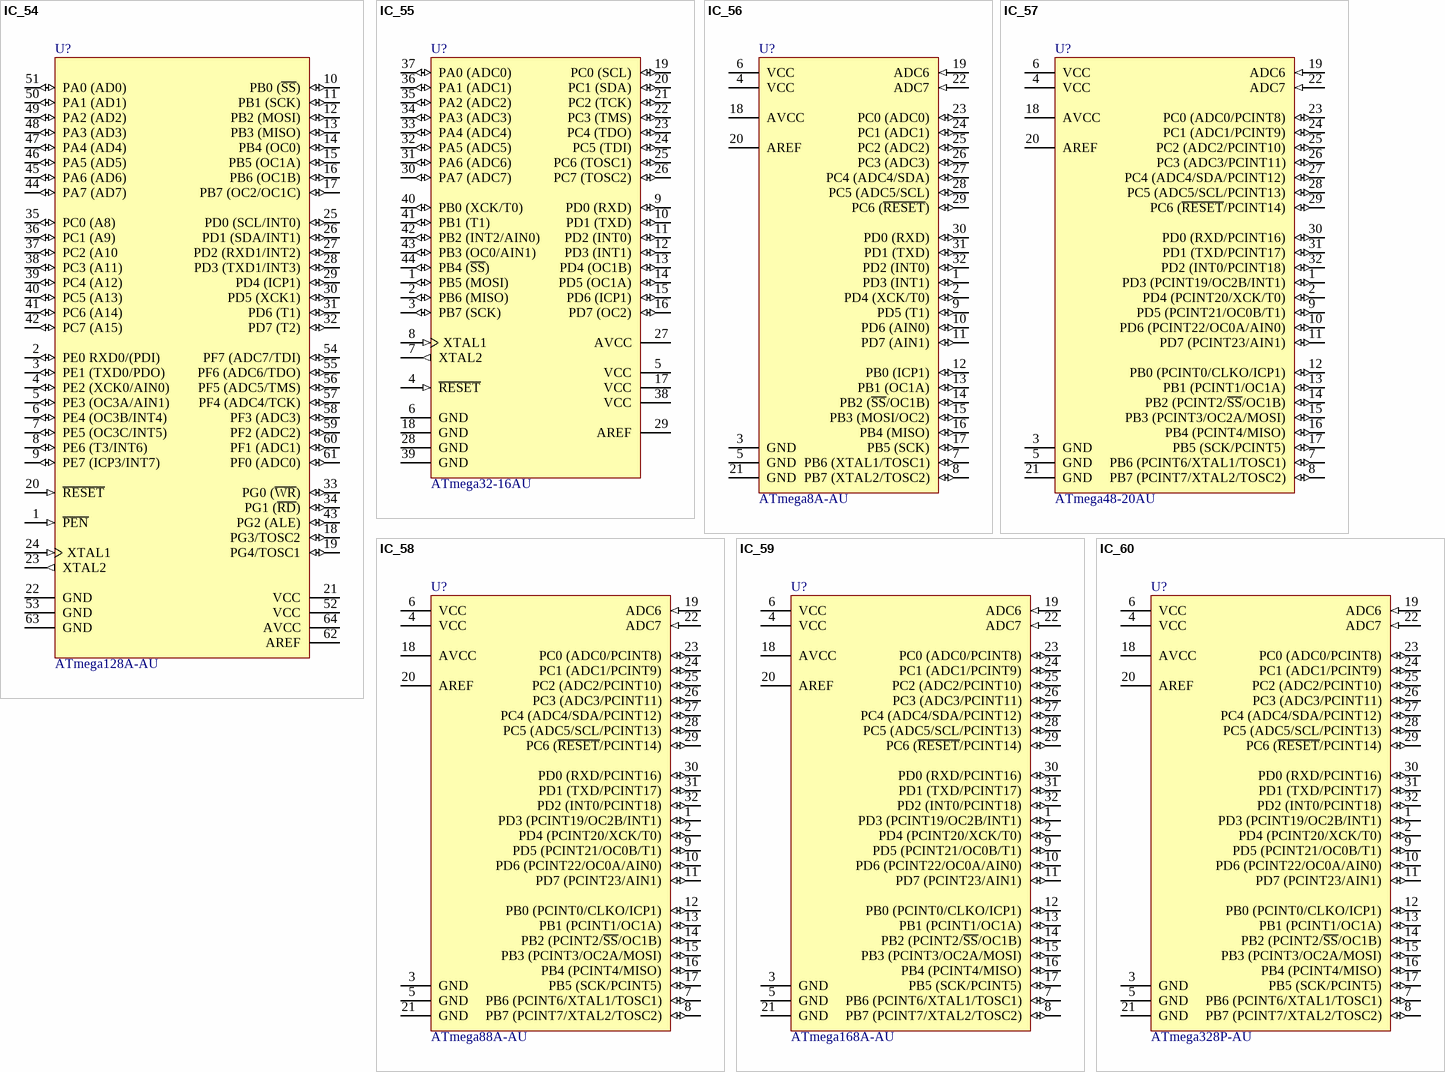
[diagram p3: symbols IC_54 to IC_60]

## IC_54
designator U?, comment ATmega128A-AU
IC_description: Microcontroller; QR: 0; UID: IC_54; Name: ATmega128A-AU; ComponentLink1URL: #NAME?; mounting: SMD
footprint QFP_64
pins: 1 ~{PEN} (in), 2 PE0 RXD0/(PDI) (io), 3 PE1 (TXD0/PDO) (io), 4 PE2 (XCK0/AIN0) (io), 5 PE3 (OC3A/AIN1) (io), 6 PE4 (OC3B/INT4) (io), 7 PE5 (OC3C/INT5) (io), 8 PE6 (T3/INT6) (io), 9 PE7 (ICP3/INT7) (io), 10 PB0 (~{SS}) (io), 11 PB1 (SCK) (io), 12 PB2 (MOSI) (io), 13 PB3 (MISO) (io), 14 PB4 (OC0) (io), 15 PB5 (OC1A) (io), 16 PB6 (OC1B) (io), 17 PB7 (OC2/OC1C) (io), 18 PG3/TOSC2 (io), 19 PG4/TOSC1 (io), 20 ~{RESET} (in), 21 VCC (power), 22 GND (power), 23 XTAL2 (out), 24 XTAL1 (in), 25 PD0 (SCL/INT0) (io), 26 PD1 (SDA/INT1) (io), 27 PD2 (RXD1/INT2) (io), 28 PD3 (TXD1/INT3) (io), 29 PD4 (ICP1) (io), 30 PD5 (XCK1) (io), 31 PD6 (T1) (io), 32 PD7 (T2) (io), 33 PG0 (~{WR}) (io), 34 PG1 (~{RD}) (io), 35 PC0 (A8) (io), 36 PC1 (A9) (io), 37 PC2 (A10 (io), 38 PC3 (A11) (io), 39 PC4 (A12) (io), 40 PC5 (A13) (io), 41 PC6 (A14) (io), 42 PC7 (A15) (io), 43 PG2 (ALE) (io), 44 PA7 (AD7) (io), 45 PA6 (AD6) (io), 46 PA5 (AD5) (io), 47 PA4 (AD4) (io), 48 PA3 (AD3) (io), 49 PA2 (AD2) (io), 50 PA1 (AD1) (io), 51 PA0 (AD0) (io), 52 VCC (power), 53 GND (power), 54 PF7 (ADC7/TDI) (io), 55 PF6 (ADC6/TDO) (io), 56 PF5 (ADC5/TMS) (io), 57 PF4 (ADC4/TCK) (io), 58 PF3 (ADC3) (io), 59 PF2 (ADC2) (io), 60 PF1 (ADC1) (io), 61 PF0 (ADC0) (io), 62 AREF (power), 63 GND (power), 64 AVCC (power)

## IC_55
designator U?, comment ATmega32-16AU
IC_description: Microcontroller; QR: 0; UID: IC_55; Name: ATmega32-16AU; ComponentLink1URL: #NAME?; mounting: SMD
footprint QFP_44
pins: 1 PB5 (MOSI) (io), 2 PB6 (MISO) (io), 3 PB7 (SCK) (io), 4 ~{RESET} (in), 5 VCC (power), 6 GND (power), 7 XTAL2 (out), 8 XTAL1 (in), 9 PD0 (RXD) (io), 10 PD1 (TXD) (io), 11 PD2 (INT0) (io), 12 PD3 (INT1) (io), 13 PD4 (OC1B) (io), 14 PD5 (OC1A) (io), 15 PD6 (ICP1) (io), 16 PD7 (OC2) (io), 17 VCC (power), 18 GND (power), 19 PC0 (SCL) (io), 20 PC1 (SDA) (io), 21 PC2 (TCK) (io), 22 PC3 (TMS) (io), 23 PC4 (TDO) (io), 24 PC5 (TDI) (io), 25 PC6 (TOSC1) (io), 26 PC7 (TOSC2) (io), 27 AVCC (power), 28 GND (power), 29 AREF (power), 30 PA7 (ADC7) (io), 31 PA6 (ADC6) (io), 32 PA5 (ADC5) (io), 33 PA4 (ADC4) (io), 34 PA3 (ADC3) (io), 35 PA2 (ADC2) (io), 36 PA1 (ADC1) (io), 37 PA0 (ADC0) (io), 38 VCC (power), 39 GND (power), 40 PB0 (XCK/T0) (io), 41 PB1 (T1) (io), 42 PB2 (INT2/AIN0) (io), 43 PB3 (OC0/AIN1) (io), 44 PB4 (~{SS}) (io)

## IC_56
designator U?, comment ATmega8A-AU
IC_description: Microcontroller; QR: 0; UID: IC_56; Name: ATmega8A-AU; ComponentLink1URL: #NAME?; mounting: SMD
footprint QFP_32
pins: 1 PD3 (INT1) (io), 2 PD4 (XCK/T0) (io), 3 GND (power), 4 VCC (power), 5 GND (power), 6 VCC (power), 7 PB6 (XTAL1/TOSC1) (io), 8 PB7 (XTAL2/TOSC2) (io), 9 PD5 (T1) (io), 10 PD6 (AIN0) (io), 11 PD7 (AIN1) (io), 12 PB0 (ICP1) (io), 13 PB1 (OC1A) (io), 14 PB2 (~{SS}/OC1B) (io), 15 PB3 (MOSI/OC2) (io), 16 PB4 (MISO) (io), 17 PB5 (SCK) (io), 18 AVCC (power), 19 ADC6 (in), 20 AREF (power), 21 GND (power), 22 ADC7 (in), 23 PC0 (ADC0) (io), 24 PC1 (ADC1) (io), 25 PC2 (ADC2) (io), 26 PC3 (ADC3) (io), 27 PC4 (ADC4/SDA) (io), 28 PC5 (ADC5/SCL) (io), 29 PC6 (~{RESET}) (io), 30 PD0 (RXD) (io), 31 PD1 (TXD) (io), 32 PD2 (INT0) (io)

## IC_57
designator U?, comment ATmega48-20AU
IC_description: Microcontroller; QR: 0; UID: IC_57; Name: ATmega48-20AU; ComponentLink1URL: #NAME?; mounting: SMD
footprint QFP_32
pins: 1 PD3 (PCINT19/OC2B/INT1) (io), 2 PD4 (PCINT20/XCK/T0) (io), 3 GND (power), 4 VCC (power), 5 GND (power), 6 VCC (power), 7 PB6 (PCINT6/XTAL1/TOSC1) (io), 8 PB7 (PCINT7/XTAL2/TOSC2) (io), 9 PD5 (PCINT21/OC0B/T1) (io), 10 PD6 (PCINT22/OC0A/AIN0) (io), 11 PD7 (PCINT23/AIN1) (io), 12 PB0 (PCINT0/CLKO/ICP1) (io), 13 PB1 (PCINT1/OC1A) (io), 14 PB2 (PCINT2/~{SS}/OC1B) (io), 15 PB3 (PCINT3/OC2A/MOSI) (io), 16 PB4 (PCINT4/MISO) (io), 17 PB5 (SCK/PCINT5) (io), 18 AVCC (power), 19 ADC6 (in), 20 AREF, 21 GND (power), 22 ADC7 (in), 23 PC0 (ADC0/PCINT8) (io), 24 PC1 (ADC1/PCINT9) (io), 25 PC2 (ADC2/PCINT10) (io), 26 PC3 (ADC3/PCINT11) (io), 27 PC4 (ADC4/SDA/PCINT12) (io), 28 PC5 (ADC5/SCL/PCINT13) (io), 29 PC6 (~{RESET}/PCINT14) (io), 30 PD0 (RXD/PCINT16) (io), 31 PD1 (TXD/PCINT17) (io), 32 PD2 (INT0/PCINT18) (io)

## IC_58
designator U?, comment ATmega88A-AU
RS_number: 719-4039P; IC_description: Microcontroller; QR: 0; UID: IC_58; Name: ATmega88A-AU; Name_Hyperlink: MCU 8-Bit ATmega AVR RISC 8KB Flash; ComponentLink1URL: #NAME?; mounting: SMD
footprint QFP_32
pins: 1 PD3 (PCINT19/OC2B/INT1) (io), 2 PD4 (PCINT20/XCK/T0) (io), 3 GND (power), 4 VCC (power), 5 GND (power), 6 VCC (power), 7 PB6 (PCINT6/XTAL1/TOSC1) (io), 8 PB7 (PCINT7/XTAL2/TOSC2) (io), 9 PD5 (PCINT21/OC0B/T1) (io), 10 PD6 (PCINT22/OC0A/AIN0) (io), 11 PD7 (PCINT23/AIN1) (io), 12 PB0 (PCINT0/CLKO/ICP1) (io), 13 PB1 (PCINT1/OC1A) (io), 14 PB2 (PCINT2/~{SS}/OC1B) (io), 15 PB3 (PCINT3/OC2A/MOSI) (io), 16 PB4 (PCINT4/MISO) (io), 17 PB5 (SCK/PCINT5) (io), 18 AVCC (power), 19 ADC6 (in), 20 AREF, 21 GND (power), 22 ADC7 (in), 23 PC0 (ADC0/PCINT8) (io), 24 PC1 (ADC1/PCINT9) (io), 25 PC2 (ADC2/PCINT10) (io), 26 PC3 (ADC3/PCINT11) (io), 27 PC4 (ADC4/SDA/PCINT12) (io), 28 PC5 (ADC5/SCL/PCINT13) (io), 29 PC6 (~{RESET}/PCINT14) (io), 30 PD0 (RXD/PCINT16) (io), 31 PD1 (TXD/PCINT17) (io), 32 PD2 (INT0/PCINT18) (io)

## IC_59
designator U?, comment ATmega168A-AU
IC_description: Microcontroller; QR: 0; UID: IC_59; Name: ATmega168A-AU; ComponentLink1URL: #NAME?; mounting: SMD
footprint QFP_32
pins: 1 PD3 (PCINT19/OC2B/INT1) (io), 2 PD4 (PCINT20/XCK/T0) (io), 3 GND (power), 4 VCC (power), 5 GND (power), 6 VCC (power), 7 PB6 (PCINT6/XTAL1/TOSC1) (io), 8 PB7 (PCINT7/XTAL2/TOSC2) (io), 9 PD5 (PCINT21/OC0B/T1) (io), 10 PD6 (PCINT22/OC0A/AIN0) (io), 11 PD7 (PCINT23/AIN1) (io), 12 PB0 (PCINT0/CLKO/ICP1) (io), 13 PB1 (PCINT1/OC1A) (io), 14 PB2 (PCINT2/~{SS}/OC1B) (io), 15 PB3 (PCINT3/OC2A/MOSI) (io), 16 PB4 (PCINT4/MISO) (io), 17 PB5 (SCK/PCINT5) (io), 18 AVCC (power), 19 ADC6 (in), 20 AREF, 21 GND (power), 22 ADC7 (in), 23 PC0 (ADC0/PCINT8) (io), 24 PC1 (ADC1/PCINT9) (io), 25 PC2 (ADC2/PCINT10) (io), 26 PC3 (ADC3/PCINT11) (io), 27 PC4 (ADC4/SDA/PCINT12) (io), 28 PC5 (ADC5/SCL/PCINT13) (io), 29 PC6 (~{RESET}/PCINT14) (io), 30 PD0 (RXD/PCINT16) (io), 31 PD1 (TXD/PCINT17) (io), 32 PD2 (INT0/PCINT18) (io)

## IC_60
designator U?, comment ATmega328P-AU
IC_description: Microcontroller; QR: 0; UID: IC_60; Name: ATmega328P-AU; ComponentLink1URL: #NAME?; mounting: SMD
footprint QFP_32
pins: 1 PD3 (PCINT19/OC2B/INT1) (io), 2 PD4 (PCINT20/XCK/T0) (io), 3 GND (power), 4 VCC (power), 5 GND (power), 6 VCC (power), 7 PB6 (PCINT6/XTAL1/TOSC1) (io), 8 PB7 (PCINT7/XTAL2/TOSC2) (io), 9 PD5 (PCINT21/OC0B/T1) (io), 10 PD6 (PCINT22/OC0A/AIN0) (io), 11 PD7 (PCINT23/AIN1) (io), 12 PB0 (PCINT0/CLKO/ICP1) (io), 13 PB1 (PCINT1/OC1A) (io), 14 PB2 (PCINT2/~{SS}/OC1B) (io), 15 PB3 (PCINT3/OC2A/MOSI) (io), 16 PB4 (PCINT4/MISO) (io), 17 PB5 (SCK/PCINT5) (io), 18 AVCC (power), 19 ADC6 (in), 20 AREF, 21 GND (power), 22 ADC7 (in), 23 PC0 (ADC0/PCINT8) (io), 24 PC1 (ADC1/PCINT9) (io), 25 PC2 (ADC2/PCINT10) (io), 26 PC3 (ADC3/PCINT11) (io), 27 PC4 (ADC4/SDA/PCINT12) (io), 28 PC5 (ADC5/SCL/PCINT13) (io), 29 PC6 (~{RESET}/PCINT14) (io), 30 PD0 (RXD/PCINT16) (io), 31 PD1 (TXD/PCINT17) (io), 32 PD2 (INT0/PCINT18) (io)

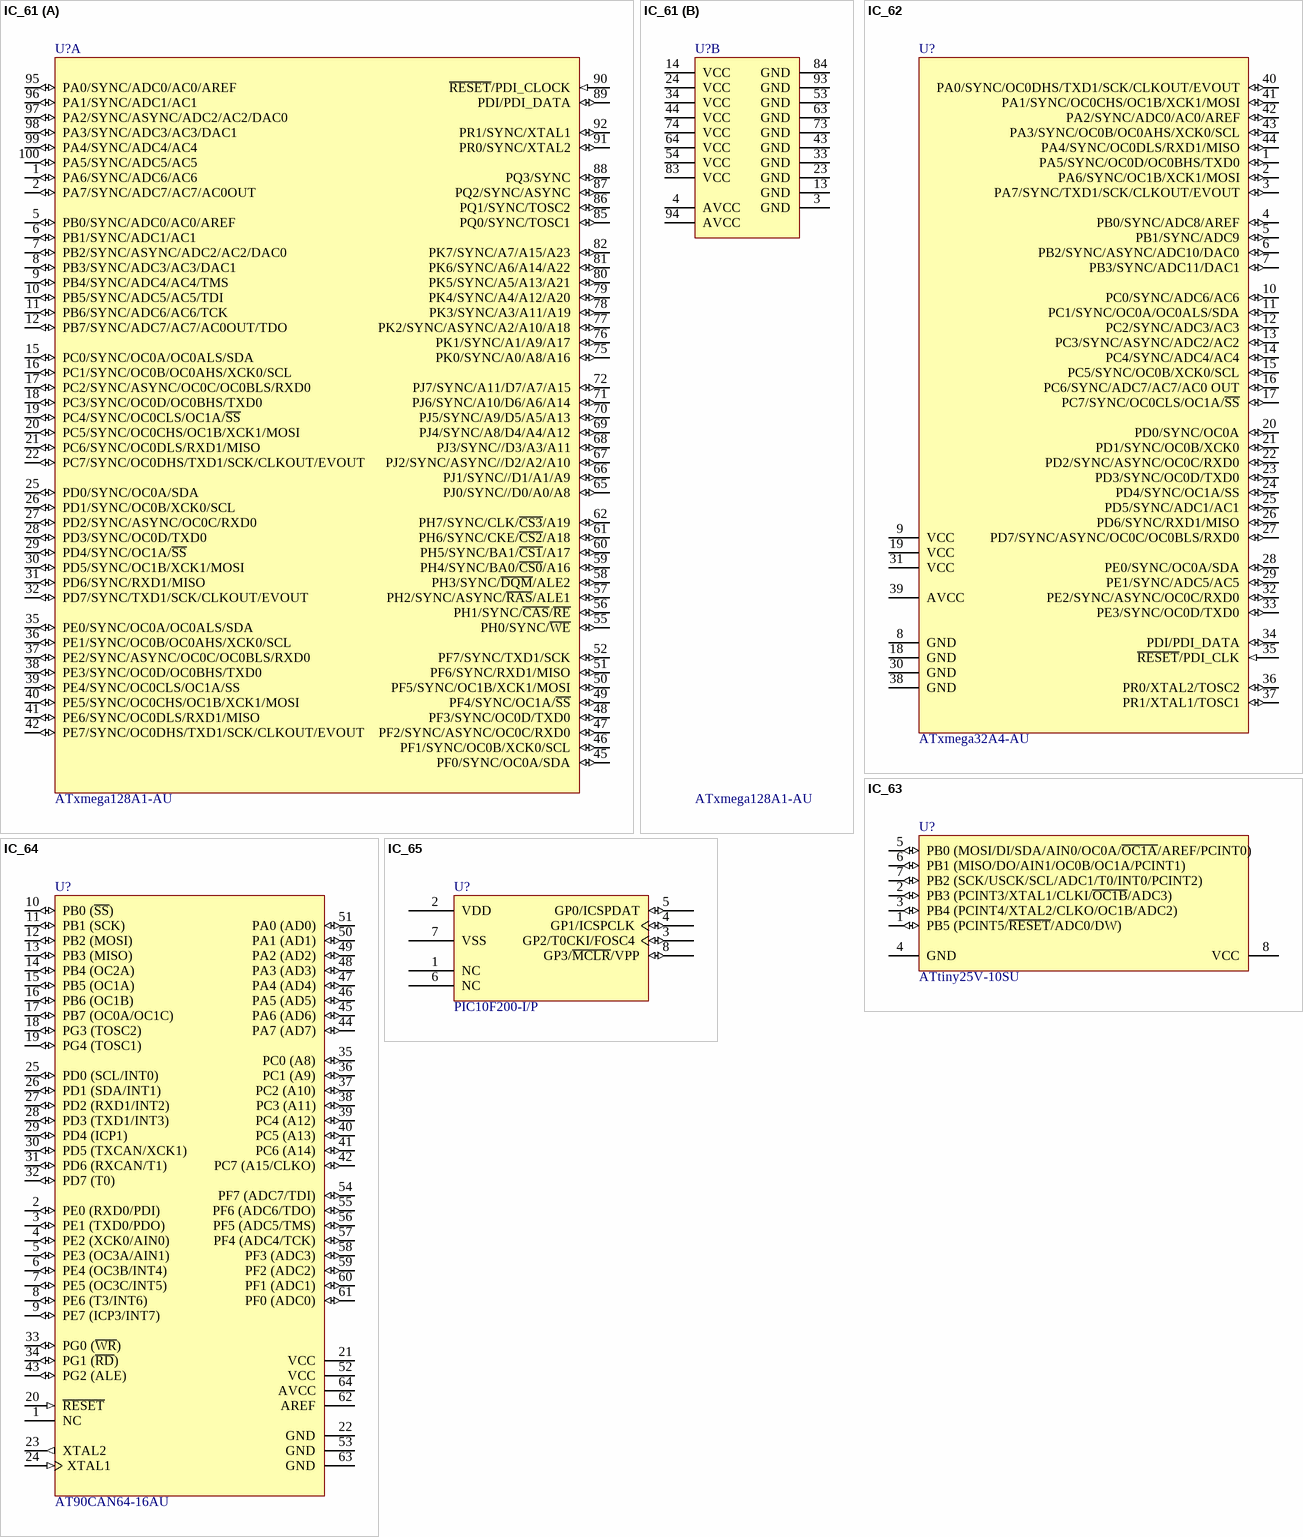
[diagram p4: symbols IC_61 to IC_65]

## IC_61
designator U?, comment ATxmega128A1-AU
IC_description: Microcontroller; QR: 0; UID: IC_61; Name: ATxmega128A1-AU; ComponentLink1URL: #NAME?; mounting: SMD
footprint QFP_100
part A pins: 1 PA6/SYNC/ADC6/AC6 (io), 2 PA7/SYNC/ADC7/AC7/AC0OUT (io), 5 PB0/SYNC/ADC0/AC0/AREF (io), 6 PB1/SYNC/ADC1/AC1 (io), 7 PB2/SYNC/ASYNC/ADC2/AC2/DAC0 (io), 8 PB3/SYNC/ADC3/AC3/DAC1 (io), 9 PB4/SYNC/ADC4/AC4/TMS (io), 10 PB5/SYNC/ADC5/AC5/TDI (io), 11 PB6/SYNC/ADC6/AC6/TCK (io), 12 PB7/SYNC/ADC7/AC7/AC0OUT/TDO (io), 15 PC0/SYNC/OC0A/OC0ALS/SDA (io), 16 PC1/SYNC/OC0B/OC0AHS/XCK0/SCL (io), 17 PC2/SYNC/ASYNC/OC0C/OC0BLS/RXD0 (io), 18 PC3/SYNC/OC0D/OC0BHS/TXD0 (io), 19 PC4/SYNC/OC0CLS/OC1A/~{SS} (io), 20 PC5/SYNC/OC0CHS/OC1B/XCK1/MOSI (io), 21 PC6/SYNC/OC0DLS/RXD1/MISO (io), 22 PC7/SYNC/OC0DHS/TXD1/SCK/CLKOUT/EVOUT (io), 25 PD0/SYNC/OC0A/SDA (io), 26 PD1/SYNC/OC0B/XCK0/SCL (io), 27 PD2/SYNC/ASYNC/OC0C/RXD0 (io), 28 PD3/SYNC/OC0D/TXD0 (io), 29 PD4/SYNC/OC1A/~{SS} (io), 30 PD5/SYNC/OC1B/XCK1/MOSI (io), 31 PD6/SYNC/RXD1/MISO (io), 32 PD7/SYNC/TXD1/SCK/CLKOUT/EVOUT (io), 35 PE0/SYNC/OC0A/OC0ALS/SDA (io), 36 PE1/SYNC/OC0B/OC0AHS/XCK0/SCL (io), 37 PE2/SYNC/ASYNC/OC0C/OC0BLS/RXD0 (io), 38 PE3/SYNC/OC0D/OC0BHS/TXD0 (io), 39 PE4/SYNC/OC0CLS/OC1A/SS (io), 40 PE5/SYNC/OC0CHS/OC1B/XCK1/MOSI (io), 41 PE6/SYNC/OC0DLS/RXD1/MISO (io), 42 PE7/SYNC/OC0DHS/TXD1/SCK/CLKOUT/EVOUT (io), 45 PF0/SYNC/OC0A/SDA (io), 46 PF1/SYNC/OC0B/XCK0/SCL (io), 47 PF2/SYNC/ASYNC/OC0C/RXD0 (io), 48 PF3/SYNC/OC0D/TXD0 (io), 49 PF4/SYNC/OC1A/~{SS} (io), 50 PF5/SYNC/OC1B/XCK1/MOSI (io), 51 PF6/SYNC/RXD1/MISO (io), 52 PF7/SYNC/TXD1/SCK (io), 55 PH0/SYNC/~{WE} (io), 56 PH1/SYNC/~{CAS}/~{RE} (io), 57 PH2/SYNC/ASYNC/~{RAS}/ALE1 (io), 58 PH3/SYNC/~{DQM}/ALE2 (io), 59 PH4/SYNC/BA0/~{CS0}/A16 (io), 60 PH5/SYNC/BA1/~{CS1}/A17 (io), 61 PH6/SYNC/CKE/~{CS2}/A18 (io), 62 PH7/SYNC/CLK/~{CS3}/A19 (io), 65 PJ0/SYNC//D0/A0/A8 (io), 66 PJ1/SYNC//D1/A1/A9 (io), 67 PJ2/SYNC/ASYNC//D2/A2/A10 (io), 68 PJ3/SYNC//D3/A3/A11 (io), 69 PJ4/SYNC/A8/D4/A4/A12 (io), 70 PJ5/SYNC/A9/D5/A5/A13 (io), 71 PJ6/SYNC/A10/D6/A6/A14 (io), 72 PJ7/SYNC/A11/D7/A7/A15 (io), 75 PK0/SYNC/A0/A8/A16 (io), 76 PK1/SYNC/A1/A9/A17 (io), 77 PK2/SYNC/ASYNC/A2/A10/A18 (io), 78 PK3/SYNC/A3/A11/A19 (io), 79 PK4/SYNC/A4/A12/A20 (io), 80 PK5/SYNC/A5/A13/A21 (io), 81 PK6/SYNC/A6/A14/A22 (io), 82 PK7/SYNC/A7/A15/A23 (io), 85 PQ0/SYNC/TOSC1 (io), 86 PQ1/SYNC/TOSC2 (io), 87 PQ2/SYNC/ASYNC (io), 88 PQ3/SYNC (io), 89 PDI/PDI_DATA (io), 90 ~{RESET}/PDI_CLOCK (in), 91 PR0/SYNC/XTAL2 (io), 92 PR1/SYNC/XTAL1 (io), 95 PA0/SYNC/ADC0/AC0/AREF (io), 96 PA1/SYNC/ADC1/AC1 (io), 97 PA2/SYNC/ASYNC/ADC2/AC2/DAC0 (io), 98 PA3/SYNC/ADC3/AC3/DAC1 (io), 99 PA4/SYNC/ADC4/AC4 (io), 100 PA5/SYNC/ADC5/AC5 (io)
part B pins: 3 GND (power), 4 AVCC (power), 13 GND (power), 14 VCC (power), 23 GND (power), 24 VCC (power), 33 GND (power), 34 VCC (power), 43 GND (power), 44 VCC (power), 53 GND (power), 54 VCC (power), 63 GND (power), 64 VCC (power), 73 GND (power), 74 VCC (power), 83 VCC (power), 84 GND (power), 93 GND (power), 94 AVCC (power)

## IC_62
designator U?, comment ATxmega32A4-AU
RS_number: 696-3102; IC_description: Microcontroller; QR: 0; UID: IC_62; Name: ATxmega32A4-AU; Name_Hyperlink: 8 bit Microcontroller AVR XMEGA 32KB; ComponentLink1URL: #NAME?; mounting: SMD
footprint QFP_44
pins: 1 PA5/SYNC/OC0D/OC0BHS/TXD0 (io), 2 PA6/SYNC/OC1B/XCK1/MOSI (io), 3 PA7/SYNC/TXD1/SCK/CLKOUT/EVOUT (io), 4 PB0/SYNC/ADC8/AREF (io), 5 PB1/SYNC/ADC9 (io), 6 PB2/SYNC/ASYNC/ADC10/DAC0 (io), 7 PB3/SYNC/ADC11/DAC1 (io), 8 GND (power), 9 VCC (power), 10 PC0/SYNC/ADC6/AC6 (io), 11 PC1/SYNC/OC0A/OC0ALS/SDA (io), 12 PC2/SYNC/ADC3/AC3 (io), 13 PC3/SYNC/ASYNC/ADC2/AC2 (io), 14 PC4/SYNC/ADC4/AC4 (io), 15 PC5/SYNC/OC0B/XCK0/SCL (io), 16 PC6/SYNC/ADC7/AC7/AC0 OUT (io), 17 PC7/SYNC/OC0CLS/OC1A/~{SS} (io), 18 GND (power), 19 VCC (power), 20 PD0/SYNC/OC0A (io), 21 PD1/SYNC/OC0B/XCK0 (io), 22 PD2/SYNC/ASYNC/OC0C/RXD0 (io), 23 PD3/SYNC/OC0D/TXD0 (io), 24 PD4/SYNC/OC1A/SS (io), 25 PD5/SYNC/ADC1/AC1 (io), 26 PD6/SYNC/RXD1/MISO (io), 27 PD7/SYNC/ASYNC/OC0C/OC0BLS/RXD0 (io), 28 PE0/SYNC/OC0A/SDA (io), 29 PE1/SYNC/ADC5/AC5 (io), 30 GND (power), 31 VCC (power), 32 PE2/SYNC/ASYNC/OC0C/RXD0 (io), 33 PE3/SYNC/OC0D/TXD0 (io), 34 PDI/PDI_DATA (io), 35 ~{RESET}/PDI_CLK (in), 36 PR0/XTAL2/TOSC2 (io), 37 PR1/XTAL1/TOSC1 (io), 38 GND (power), 39 AVCC (power), 40 PA0/SYNC/OC0DHS/TXD1/SCK/CLKOUT/EVOUT (io), 41 PA1/SYNC/OC0CHS/OC1B/XCK1/MOSI (io), 42 PA2/SYNC/ADC0/AC0/AREF (io), 43 PA3/SYNC/OC0B/OC0AHS/XCK0/SCL (io), 44 PA4/SYNC/OC0DLS/RXD1/MISO (io)

## IC_63
designator U?, comment ATtiny25V-10SU
IC_description: Microcontroller; QR: 0; UID: IC_63; Name: ATtiny25V-10SU; ComponentLink1URL: #NAME?; mounting: SMD
footprint SO_8_W
pins: 1 PB5 (PCINT5/~{RESET}/ADC0/DW) (io), 2 PB3 (PCINT3/XTAL1/CLKI/~{OC1B}/ADC3) (io), 3 PB4 (PCINT4/XTAL2/CLKO/OC1B/ADC2) (io), 4 GND (power), 5 PB0 (MOSI/DI/SDA/AIN0/OC0A/~{OC1A}/AREF/PCINT0) (io), 6 PB1 (MISO/DO/AIN1/OC0B/OC1A/PCINT1) (io), 7 PB2 (SCK/USCK/SCL/ADC1/T0/INT0/PCINT2) (io), 8 VCC (power)

## IC_64
designator U?, comment AT90CAN64-16AU
IC_description: Microcontroller; QR: 0; UID: IC_64; Name: AT90CAN64-16AU; ComponentLink1URL: #NAME?; mounting: SMD
footprint QFP_64
pins: 1 NC, 2 PE0 (RXD0/PDI) (io), 3 PE1 (TXD0/PDO) (io), 4 PE2 (XCK0/AIN0) (io), 5 PE3 (OC3A/AIN1) (io), 6 PE4 (OC3B/INT4) (io), 7 PE5 (OC3C/INT5) (io), 8 PE6 (T3/INT6) (io), 9 PE7 (ICP3/INT7) (io), 10 PB0 (~{SS}) (io), 11 PB1 (SCK) (io), 12 PB2 (MOSI) (io), 13 PB3 (MISO) (io), 14 PB4 (OC2A) (io), 15 PB5 (OC1A) (io), 16 PB6 (OC1B) (io), 17 PB7 (OC0A/OC1C) (io), 18 PG3 (TOSC2) (io), 19 PG4 (TOSC1) (io), 20 ~{RESET} (in), 21 VCC (power), 22 GND (power), 23 XTAL2 (out), 24 XTAL1 (in), 25 PD0 (SCL/INT0) (io), 26 PD1 (SDA/INT1) (io), 27 PD2 (RXD1/INT2) (io), 28 PD3 (TXD1/INT3) (io), 29 PD4 (ICP1) (io), 30 PD5 (TXCAN/XCK1) (io), 31 PD6 (RXCAN/T1) (io), 32 PD7 (T0) (io), 33 PG0 (~{WR}) (io), 34 PG1 (~{RD}) (io), 35 PC0 (A8) (io), 36 PC1 (A9) (io), 37 PC2 (A10) (io), 38 PC3 (A11) (io), 39 PC4 (A12) (io), 40 PC5 (A13) (io), 41 PC6 (A14) (io), 42 PC7 (A15/CLKO) (io), 43 PG2 (ALE) (io), 44 PA7 (AD7) (io), 45 PA6 (AD6) (io), 46 PA5 (AD5) (io), 47 PA4 (AD4) (io), 48 PA3 (AD3) (io), 49 PA2 (AD2) (io), 50 PA1 (AD1) (io), 51 PA0 (AD0) (io), 52 VCC (power), 53 GND (power), 54 PF7 (ADC7/TDI) (io), 55 PF6 (ADC6/TDO) (io), 56 PF5 (ADC5/TMS) (io), 57 PF4 (ADC4/TCK) (io), 58 PF3 (ADC3) (io), 59 PF2 (ADC2) (io), 60 PF1 (ADC1) (io), 61 PF0 (ADC0) (io), 62 AREF (power), 63 GND (power), 64 AVCC (power)

## IC_65
designator U?, comment PIC10F200-I/P
RS_number: 623-0005; IC_description: Microcontroller; QR: 0; UID: IC_65; Name: PIC10F200-I/P; Name_Hyperlink: PIC10F200-I/P; ComponentLink1URL: #NAME?; mounting: THT
footprint DIP_8
pins: 1 NC, 2 VDD (power), 3 GP2/T0CKI/FOSC4 (io), 4 GP1/ICSPCLK (io), 5 GP0/ICSPDAT (io), 6 NC, 7 VSS (power), 8 GP3/~{MCLR}/VPP (io)

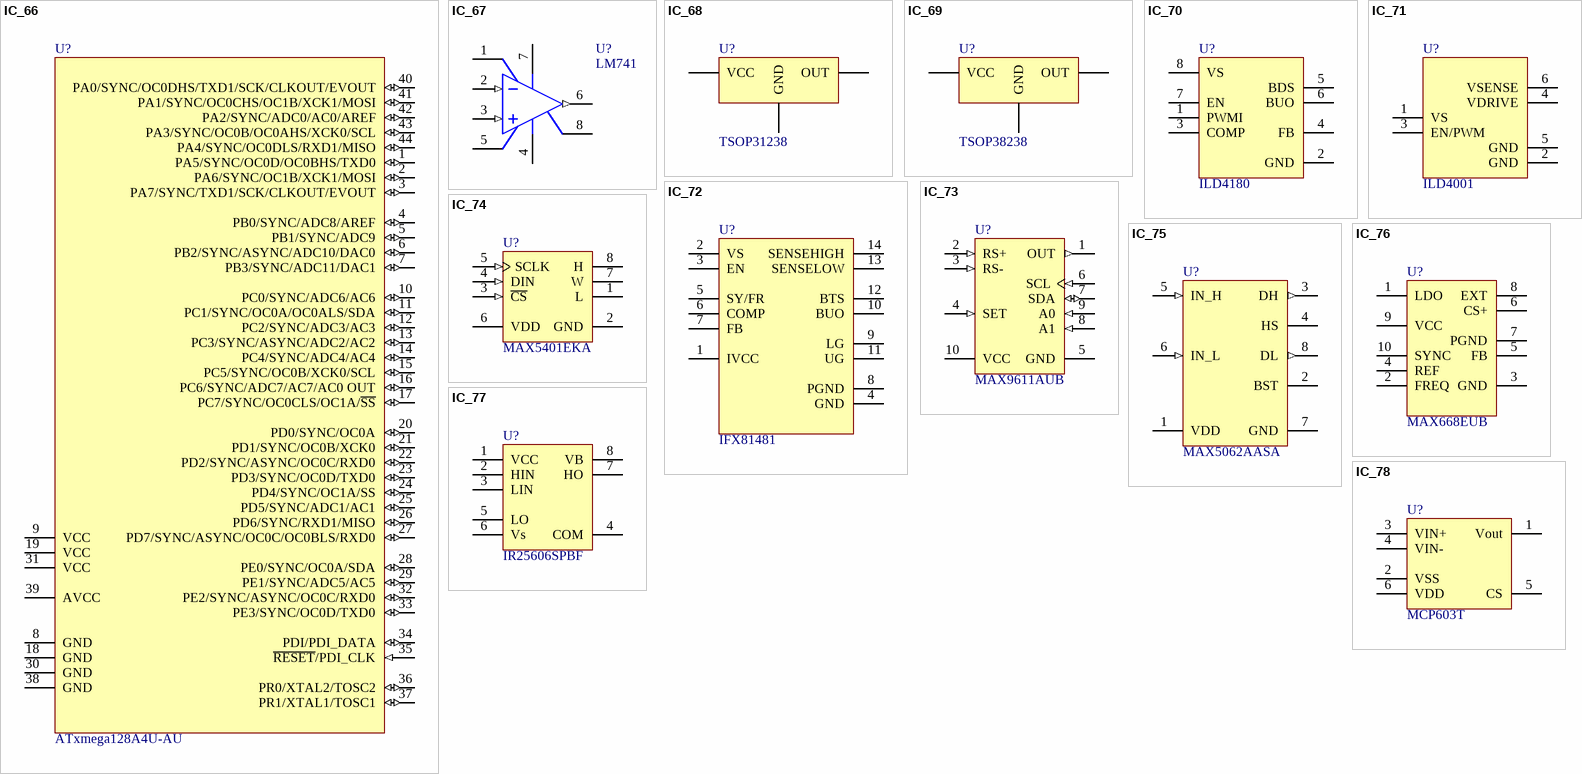
[diagram p5: symbols IC_66 to IC_78]

## IC_66
designator U?, comment ATxmega128A4U-AU
RS_number: 761-7737; IC_description: Microcontroller; QR: 0; UID: IC_66; Name: ATxmega128A4U-AU; Name_Hyperlink: MCU,AVRXMEGA,32 MHz,128 + 8 KB,TQFP44; ComponentLink1URL: #NAME?; mounting: SMD
footprint QFP_44
pins: 1 PA5/SYNC/OC0D/OC0BHS/TXD0 (io), 2 PA6/SYNC/OC1B/XCK1/MOSI (io), 3 PA7/SYNC/TXD1/SCK/CLKOUT/EVOUT (io), 4 PB0/SYNC/ADC8/AREF (io), 5 PB1/SYNC/ADC9 (io), 6 PB2/SYNC/ASYNC/ADC10/DAC0 (io), 7 PB3/SYNC/ADC11/DAC1 (io), 8 GND (power), 9 VCC (power), 10 PC0/SYNC/ADC6/AC6 (io), 11 PC1/SYNC/OC0A/OC0ALS/SDA (io), 12 PC2/SYNC/ADC3/AC3 (io), 13 PC3/SYNC/ASYNC/ADC2/AC2 (io), 14 PC4/SYNC/ADC4/AC4 (io), 15 PC5/SYNC/OC0B/XCK0/SCL (io), 16 PC6/SYNC/ADC7/AC7/AC0 OUT (io), 17 PC7/SYNC/OC0CLS/OC1A/~{SS} (io), 18 GND (power), 19 VCC (power), 20 PD0/SYNC/OC0A (io), 21 PD1/SYNC/OC0B/XCK0 (io), 22 PD2/SYNC/ASYNC/OC0C/RXD0 (io), 23 PD3/SYNC/OC0D/TXD0 (io), 24 PD4/SYNC/OC1A/SS (io), 25 PD5/SYNC/ADC1/AC1 (io), 26 PD6/SYNC/RXD1/MISO (io), 27 PD7/SYNC/ASYNC/OC0C/OC0BLS/RXD0 (io), 28 PE0/SYNC/OC0A/SDA (io), 29 PE1/SYNC/ADC5/AC5 (io), 30 GND (power), 31 VCC (power), 32 PE2/SYNC/ASYNC/OC0C/RXD0 (io), 33 PE3/SYNC/OC0D/TXD0 (io), 34 PDI/PDI_DATA (io), 35 ~{RESET}/PDI_CLK (in), 36 PR0/XTAL2/TOSC2 (io), 37 PR1/XTAL1/TOSC1 (io), 38 GND (power), 39 AVCC (power), 40 PA0/SYNC/OC0DHS/TXD1/SCK/CLKOUT/EVOUT (io), 41 PA1/SYNC/OC0CHS/OC1B/XCK1/MOSI (io), 42 PA2/SYNC/ADC0/AC0/AREF (io), 43 PA3/SYNC/OC0B/OC0AHS/XCK0/SCL (io), 44 PA4/SYNC/OC0DLS/RXD1/MISO (io)

## IC_67
designator U?, comment LM741
RS_number: 661-2356; IC_description: OPV_1; QR: 0; UID: IC_67; Name: LM741; Name_Hyperlink: http://at.rs-online.com/web/p/operationsverstarker/6612356/; ComponentLink1URL: #NAME?; mounting: SMD
footprint SO_8
pins: 1 OFS NULL, 2 IN- (in), 3 IN+ (in), 4 V- (power), 5 OFS NULL, 6 OUT (out), 7 V+ (power), 8 NC

## IC_68
designator U?, comment TSOP31238
RS_number: 570-578; IC_description: IR_Receiver; QR: 0; UID: IC_68; Name: TSOP31238; Name_Hyperlink: http://at.rs-online.com/web/p/ir-empfanger/0570578/?searchTerm=570578&relevancy-data=636F3D3126696E3D4931384E525353746F636B4E756D6265724D504E266C753D656E266D6D3D6D61746368616C6C26706D3D5E5C647B367D247C5E5C647B377D247C5E5C647B31307D2426706F3D313426736E3D59; ComponentLink1URL: #NAME?; mounting: THT
footprint TSOP31238
pins: 1 GND, 2 VCC, 3 OUT

## IC_69
designator U?, comment TSOP38238
RS_number: 708-5086; IC_description: IR_Receiver; QR: 0; UID: IC_69; Name: TSOP38238; Name_Hyperlink: http://at.rs-online.com/web/p/ir-empfanger/7085086/; ComponentLink1URL: #NAME?; mounting: THT
footprint TSOP38238
pins: 1 OUT, 2 GND, 3 VCC

## IC_70
designator U?, comment ILD4180
IC_description: LED_DRIVER; QR: 0; UID: IC_70; Name: ILD4180; ComponentLink1URL: #NAME?; mounting: SMD
footprint SO_8_Heatsink
pins: 1 PWMI, 2 GND, 3 COMP, 4 FB, 5 BDS, 6 BUO, 7 EN, 8 VS

## IC_71
designator U?, comment ILD4001
RS_number: ILD 4001 E6327; IC_description: LED_DRIVER; QR: 0; UID: IC_71; Name: ILD4001; Name_Hyperlink: http://at.mouser.com/Search/ProductDetail.aspx?R=ILD_4001_E6327virtualkey63830000virtualkey726-ILD4001E6327XT; ComponentLink1URL: #NAME?; mounting: SMD
footprint SC74-3D
pins: 1 VS, 2 GND, 3 EN/PWM, 4 VDRIVE, 5 GND, 6 VSENSE

## IC_72
designator U?, comment IFX81481
IC_description: DC/DC Konverter; QR: 0; UID: IC_72; Name: IFX81481; ComponentLink1URL: #NAME?; mounting: SMD
footprint SO_14_HEATSINK
pins: 1 IVCC, 2 VS, 3 EN, 4 GND, 5 SY/FR, 6 COMP, 7 FB, 8 PGND, 9 LG, 10 BUO, 11 UG, 12 BTS, 13 SENSELOW, 14 SENSEHIGH

## IC_73
designator U?, comment MAX9611AUB
RS_number: 700-MAX9611AUB+; IC_description: Stromsensor; QR: 0; UID: IC_73; Name: MAX9611AUB; Name_Hyperlink: http://at.mouser.com/Search/ProductDetail.aspx?qs=52wNNiLgUjRKxL2piopaQw==; ComponentLink1URL: #NAME?; mounting: SMD
footprint U10+2
pins: 1 OUT (out) "Internal Amplifier/Comparator Output", 2 RS+ (in) "Positive Current-Sensing Input. Power side connects to external sense resistor.", 3 RS- (in) "Negative Current-Sensing Input. Load side connects to external sense resistor.", 4 SET (in) "External Set-Point Voltage", 5 GND (power) "Ground", 6 SCL (in) "I2C Interface Clock Input", 7 SDA (io) "I2C Interface Data Input/Output", 8 A1 (in) "Address Input 1", 9 A0 (in) "Address Input 0", 10 VCC (power) "Supply Voltage Input. Bypass VCC to GND with a 0.1uF and a 4.7uF capacitor in parallel."

## IC_74
designator U?, comment MAX5401EKA
RS_number: 700-MAX5401EKAT; IC_description: Digitales Poti; QR: 0; UID: IC_74; Name: MAX5401EKA; Name_Hyperlink: http://at.mouser.com/ProductDetail/Maxim-Integrated/MAX5401EKA+T/?qs=9Cj2FLRihcNGo3t8ZKF5iw==; ComponentLink1URL: #NAME?; mounting: SMD
footprint MAX5401EKA
pins: 1 L "Low Terminal of Resistor", 2 GND (power) "Ground", 3 ~{CS} (in) "Chip Select Input", 4 DIN (in) "Serial Data Input", 5 SCLK (in) "Clock Input", 6 VDD (power) "Power Supply. Bypass with a 0.1uF capacitor to GND.", 7 W "Wiper Terminal", 8 H "High Terminal of Resistor"

## IC_75
designator U?, comment MAX5062AASA
RS_number: 700-MAX5062AASA-NR; IC_description: Halbbrücke MOSFET Treiber; QR: 0; UID: IC_75; Name: MAX5062AASA; Name_Hyperlink: http://at.mouser.com/ProductDetail/Maxim-Integrated/MAX5062AASA/?qs=7JzFWu92cmjod/Jcwq9/Qg==; ComponentLink1URL: #NAME?; mounting: SMD
footprint S8-5_N
pins: 1 VDD (power), 2 BST, 3 DH (out), 4 HS, 5 IN_H (in), 6 IN_L (in), 7 GND (power), 8 DL (out)

## IC_76
designator U?, comment MAX668EUB
RS_number: 700-MAX668EUB; IC_description: Schaltregler 1.8 - 28V; QR: 0; UID: IC_76; Name: MAX668EUB; Name_Hyperlink: http://at.mouser.com/ProductDetail/Maxim-Integrated/MAX668EUB+/?qs=sGAEpiMZZMvFgFrcgbsedc4ZywQp3JCZP0PfaRaGfXE%3d; ComponentLink1URL: #NAME?; mounting: SMD
footprint U10+2
pins: 1 LDO, 2 FREQ, 3 GND, 4 REF, 5 FB, 6 CS+, 7 PGND, 8 EXT, 9 VCC, 10 SYNC

## IC_77
designator U?, comment IR25606SPBF
RS_number: 942-IR25606SPBF; IC_description: Halbbrücke MOSFET Treiber; QR: 0; UID: IC_77; Name: IR25606SPBF; Name_Hyperlink: http://at.mouser.com/ProductDetail/International-Rectifier/IR25606SPBF/?qs=wbGH8eVUgdNVRtOLRPmvEQ==; ComponentLink1URL: #NAME?; mounting: SMD
footprint SO_8
pins: 1 VCC (power), 2 HIN (power), 3 LIN (power), 4 COM (power), 5 LO (power), 6 Vs (power), 7 HO (power), 8 VB (power)

## IC_78
designator U?, comment MCP603T
RS_number: 767-3541; IC_description: OPV_1 R2R; QR: 0; UID: IC_78; Name: MCP603T; Name_Hyperlink: http://at.rs-online.com/web/p/products/7673541/; ComponentLink1URL: #NAME?; mounting: SMD
footprint SC74-3D
pins: 1 Vout (power), 2 VSS (power), 3 VIN+ (power), 4 VIN- (power), 5 CS (power), 6 VDD (power)